# Altium schematic symbol library MISCESCH.SCHLIB: 351 symbols (part 1 of 2)
Pins are listed as number, name and electrical type; pins without a type are passive.

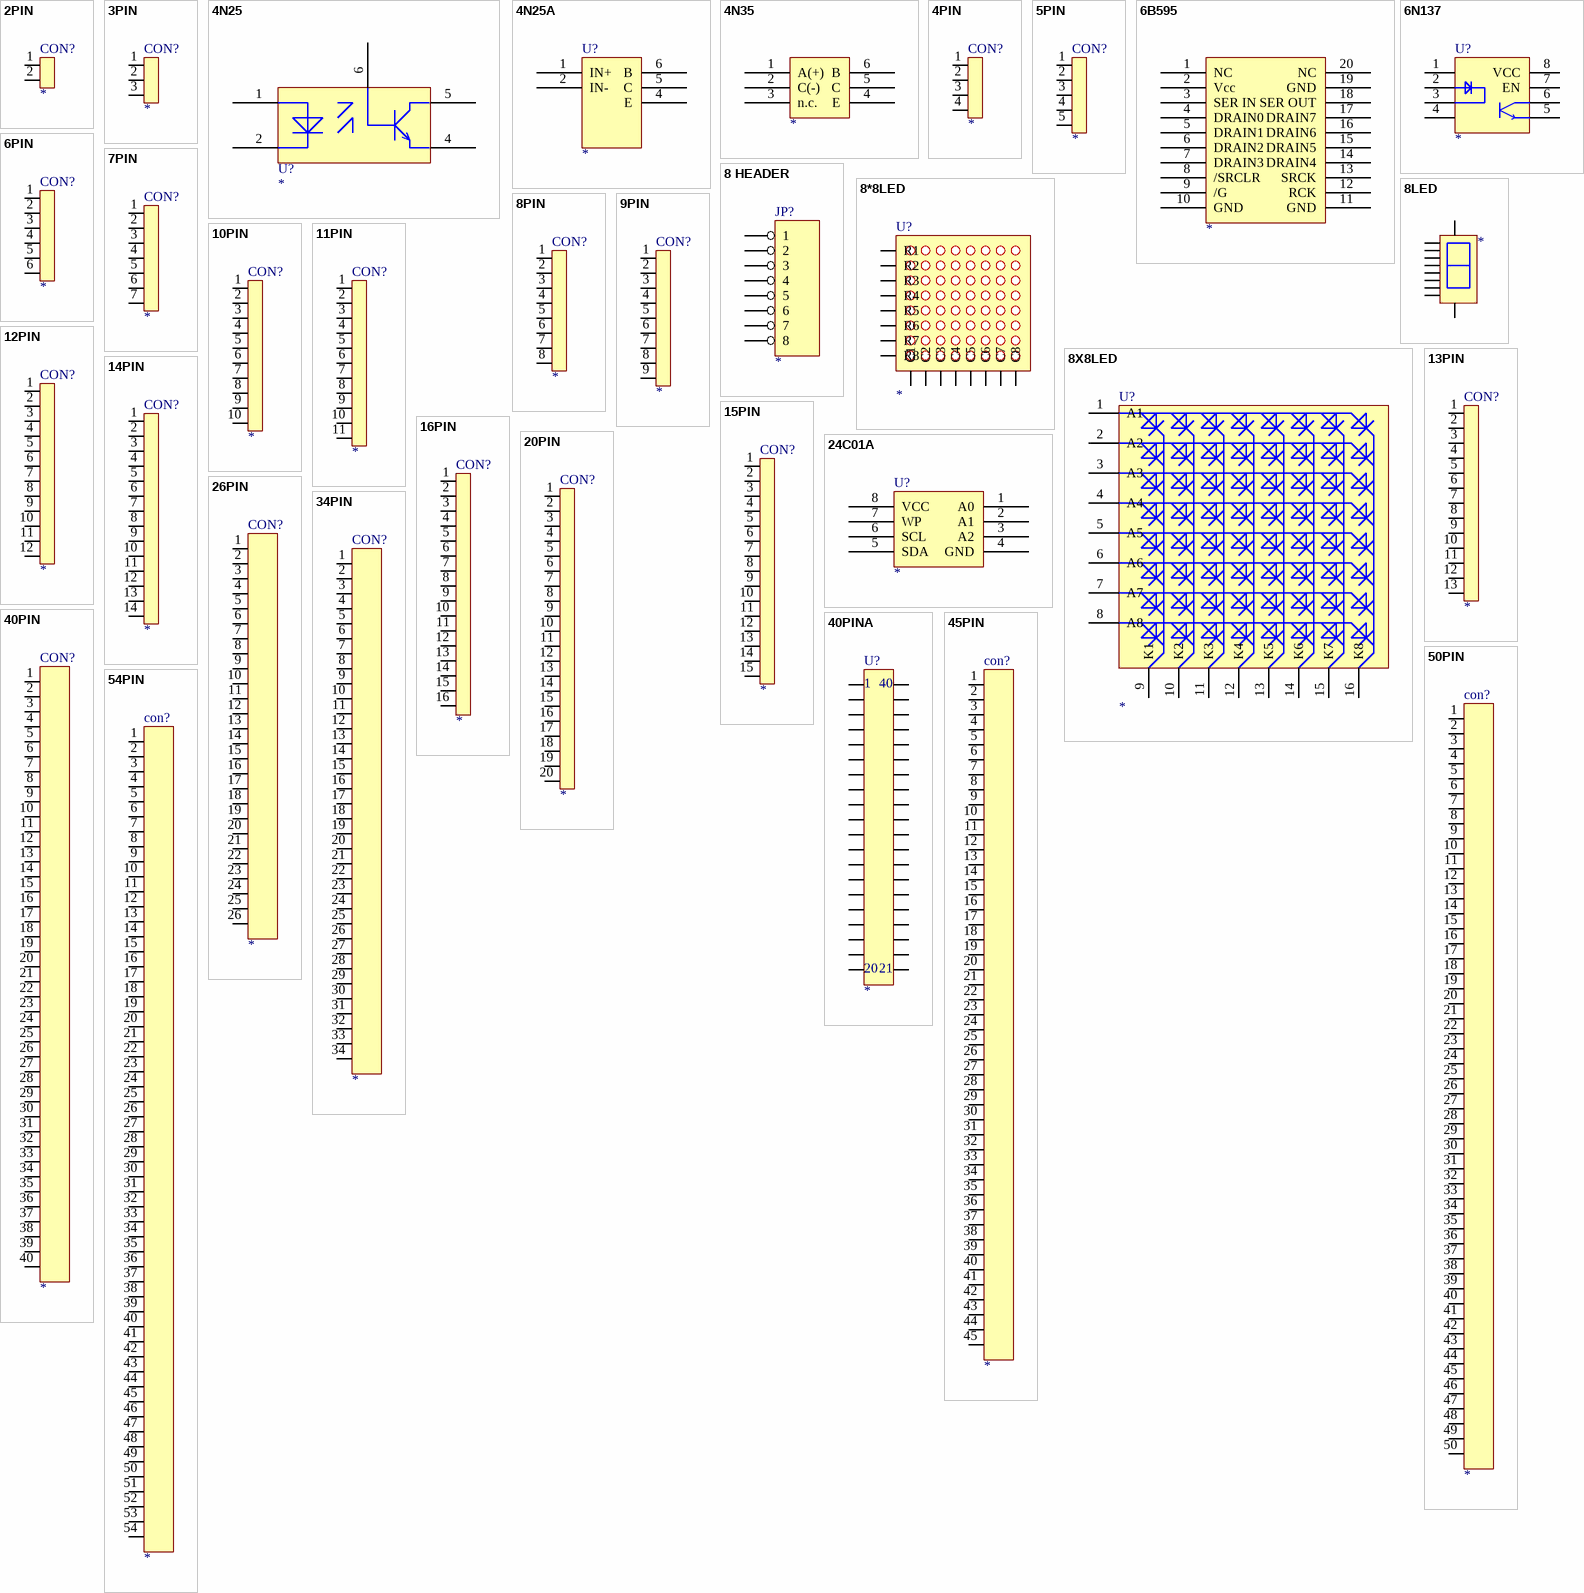
[diagram p0: symbols 2PIN to 54PIN]

## 2PIN
designator CON?
footprint SIP2
footprint SIP2/2
pins: 1, 2
1 alternate drawing of the same symbol

## 3PIN
designator CON?
footprint SIP3
footprint SIP3/2
pins: 1, 2, 3

## 4N25
designator U?
4N25
pins: 1, 2, 4, 5, 6

## 4N25A
designator U?
footprint DIP-6
pins: 1 IN+, 2 IN-, 4 E, 5 C, 6 B

## 4N35
designator ?
pins: 1 A(+), 2 C(-), 3 n.c., 4 E, 5 C, 6 B

## 4PIN
designator CON?
footprint SIP4
footprint SIP4/2
pins: 1, 2, 3, 4

## 5PIN
designator CON?
footprint SIP5
footprint SIP5/2
pins: 1, 2, 3, 4, 5

## 6B595
designator ?
pins: 1 NC, 2 Vcc, 3 SER IN, 4 DRAIN0, 5 DRAIN1, 6 DRAIN2, 7 DRAIN3, 8 /SRCLR, 9 /G, 10 GND, 11 GND, 12 RCK, 13 SRCK, 14 DRAIN4, 15 DRAIN5, 16 DRAIN6, 17 DRAIN7, 18 SER OUT, 19 GND, 20 NC

## 6N137
designator U?
6N137 OPT
footprint DIP8
pins: 1, 2, 3, 4, 5, 6, 7 EN, 8 VCC

## 6PIN
designator CON?
footprint SIP6
footprint SIP6/2
pins: 1, 2, 3, 4, 5, 6

## 7PIN
designator CON?
footprint SIP7
footprint SIP7/2
pins: 1, 2, 3, 4, 5, 6, 7

## 8 HEADER
designator JP?
8 Pin Header
footprint HDR1X8HA
pins: 1, 2, 3, 4, 5, 6, 7, 8

## 8*8LED
designator U?
LED 8X8 MATRIX
footprint 8X8LED
pins: 1 R5, 2 R7, 3 C2, 4 C3, 5 R8, 6 C5, 7 R6, 8 R3, 9 R1, 10 C4, 11 C6, 12 R4, 13 C1, 14 R2, 15 C7, 16 C8

## 8LED
designator ?
pins: ?1, ?2, ?3, ?4, ?5, ?6, ?7, ?8, ?9, ?10

## 8PIN
designator CON?
footprint SIP8
footprint SIP8/2
pins: 1, 2, 3, 4, 5, 6, 7, 8

## 8X8LED
designator U?
8X8LED
footprint 8X8LED
pins: 1 A1, 2 A2, 3 A3, 4 A4, 5 A5, 6 A6, 7 A7, 8 A8, 9 K1, 10 K2, 11 K3, 12 K4, 13 K5, 14 K6, 15 K7, 16 K8

## 9PIN
designator CON?
footprint SIP9
footprint SIP9/2
pins: 1, 2, 3, 4, 5, 6, 7, 8, 9

## 10PIN
designator CON?
footprint SIP10
footprint SIP10/2
pins: 1, 2, 3, 4, 5, 6, 7, 8, 9, 10

## 11PIN
designator CON?
footprint SIP11
footprint SIP11/2
pins: 1, 2, 3, 4, 5, 6, 7, 8, 9, 10, 11

## 12PIN
designator CON?
footprint SIP12
footprint SIP12/2
pins: 1, 2, 3, 4, 5, 6, 7, 8, 9, 10, 11, 12

## 13PIN
designator CON?
footprint SIP13
footprint SIP13/2
pins: 1, 2, 3, 4, 5, 6, 7, 8, 9, 10, 11, 12, 13

## 14PIN
designator CON?
footprint SIP14
footprint SIP14/2
pins: 1, 2, 3, 4, 5, 6, 7, 8, 9, 10, 11, 12, 13, 14

## 15PIN
designator CON?
footprint SIP14
footprint SIP14/2
pins: 1, 2, 3, 4, 5, 6, 7, 8, 9, 10, 11, 12, 13, 14, 15

## 16PIN
designator CON?
footprint SIP16
footprint SIP16/2
pins: 1, 2, 3, 4, 5, 6, 7, 8, 9, 10, 11, 12, 13, 14, 15, 16

## 20PIN
designator CON?
footprint SIP20
footprint SIP20/2
pins: 1, 2, 3, 4, 5, 6, 7, 8, 9, 10, 11, 12, 13, 14, 15, 16, 17, 18, 19, 20

## 24C01A
designator U?
24C01A
pins: 1 A0, 2 A1, 3 A2, 4 GND, 5 SDA, 6 SCL, 7 WP, 8 VCC

## 26PIN
designator CON?
footprint sip26
pins: 1, 2, 3, 4, 5, 6, 7, 8, 9, 10, 11, 12, 13, 14, 15, 16, 17, 18, 19, 20, 21, 22, 23, 24, 25, 26

## 34PIN
designator CON?
footprint sip34
pins: 1, 2, 3, 4, 5, 6, 7, 8, 9, 10, 11, 12, 13, 14, 15, 16, 17, 18, 19, 20, 21, 22, 23, 24, 25, 26, 27, 28, 29, 30, 31, 32, 33, 34

## 40PIN
designator CON?
footprint p40
pins: 1, 2, 3, 4, 5, 6, 7, 8, 9, 10, 11, 12, 13, 14, 15, 16, 17, 18, 19, 20, 21, 22, 23, 24, 25, 26, 27, 28, 29, 30, 31, 32, 33, 34, 35, 36, 37, 38, 39, 40

## 40PINA
designator U?
footprint DIP40
footprint SDIP40
pins: 1, 2, 3, 4, 5, 6, 7, 8, 9, 10, 11, 12, 13, 14, 15, 16, 17, 18, 19, 20, 21, 22, 23, 24, 25, 26, 27, 28, 29, 30, 31, 32, 33, 34, 35, 36, 37, 38, 39, 40

## 45PIN
designator con?
footprint 45P/0.5/BC
footprint 45P/0.5/TC
pins: 1, 2, 3, 4, 5, 6, 7, 8, 9, 10, 11, 12, 13, 14, 15, 16, 17, 18, 19, 20, 21, 22, 23, 24, 25, 26, 27, 28, 29, 30, 31, 32, 33, 34, 35, 36, 37, 38, 39, 40, 41, 42, 43, 44, 45

## 50PIN
designator con?
footprint 50P/0.5/BC
footprint 50P/0.5/TC
pins: 1, 2, 3, 4, 5, 6, 7, 8, 9, 10, 11, 12, 13, 14, 15, 16, 17, 18, 19, 20, 21, 22, 23, 24, 25, 26, 27, 28, 29, 30, 31, 32, 33, 34, 35, 36, 37, 38, 39, 40, 41, 42, 43, 44, 45, 46, 47, 48, 49, 50

## 54PIN
designator con?
footprint 54P/0.5/BC
pins: 1, 2, 3, 4, 5, 6, 7, 8, 9, 10, 11, 12, 13, 14, 15, 16, 17, 18, 19, 20, 21, 22, 23, 24, 25, 26, 27, 28, 29, 30, 31, 32, 33, 34, 35, 36, 37, 38, 39, 40, 41, 42, 43, 44, 45, 46, 47, 48, 49, 50, 51, 52, 53, 54

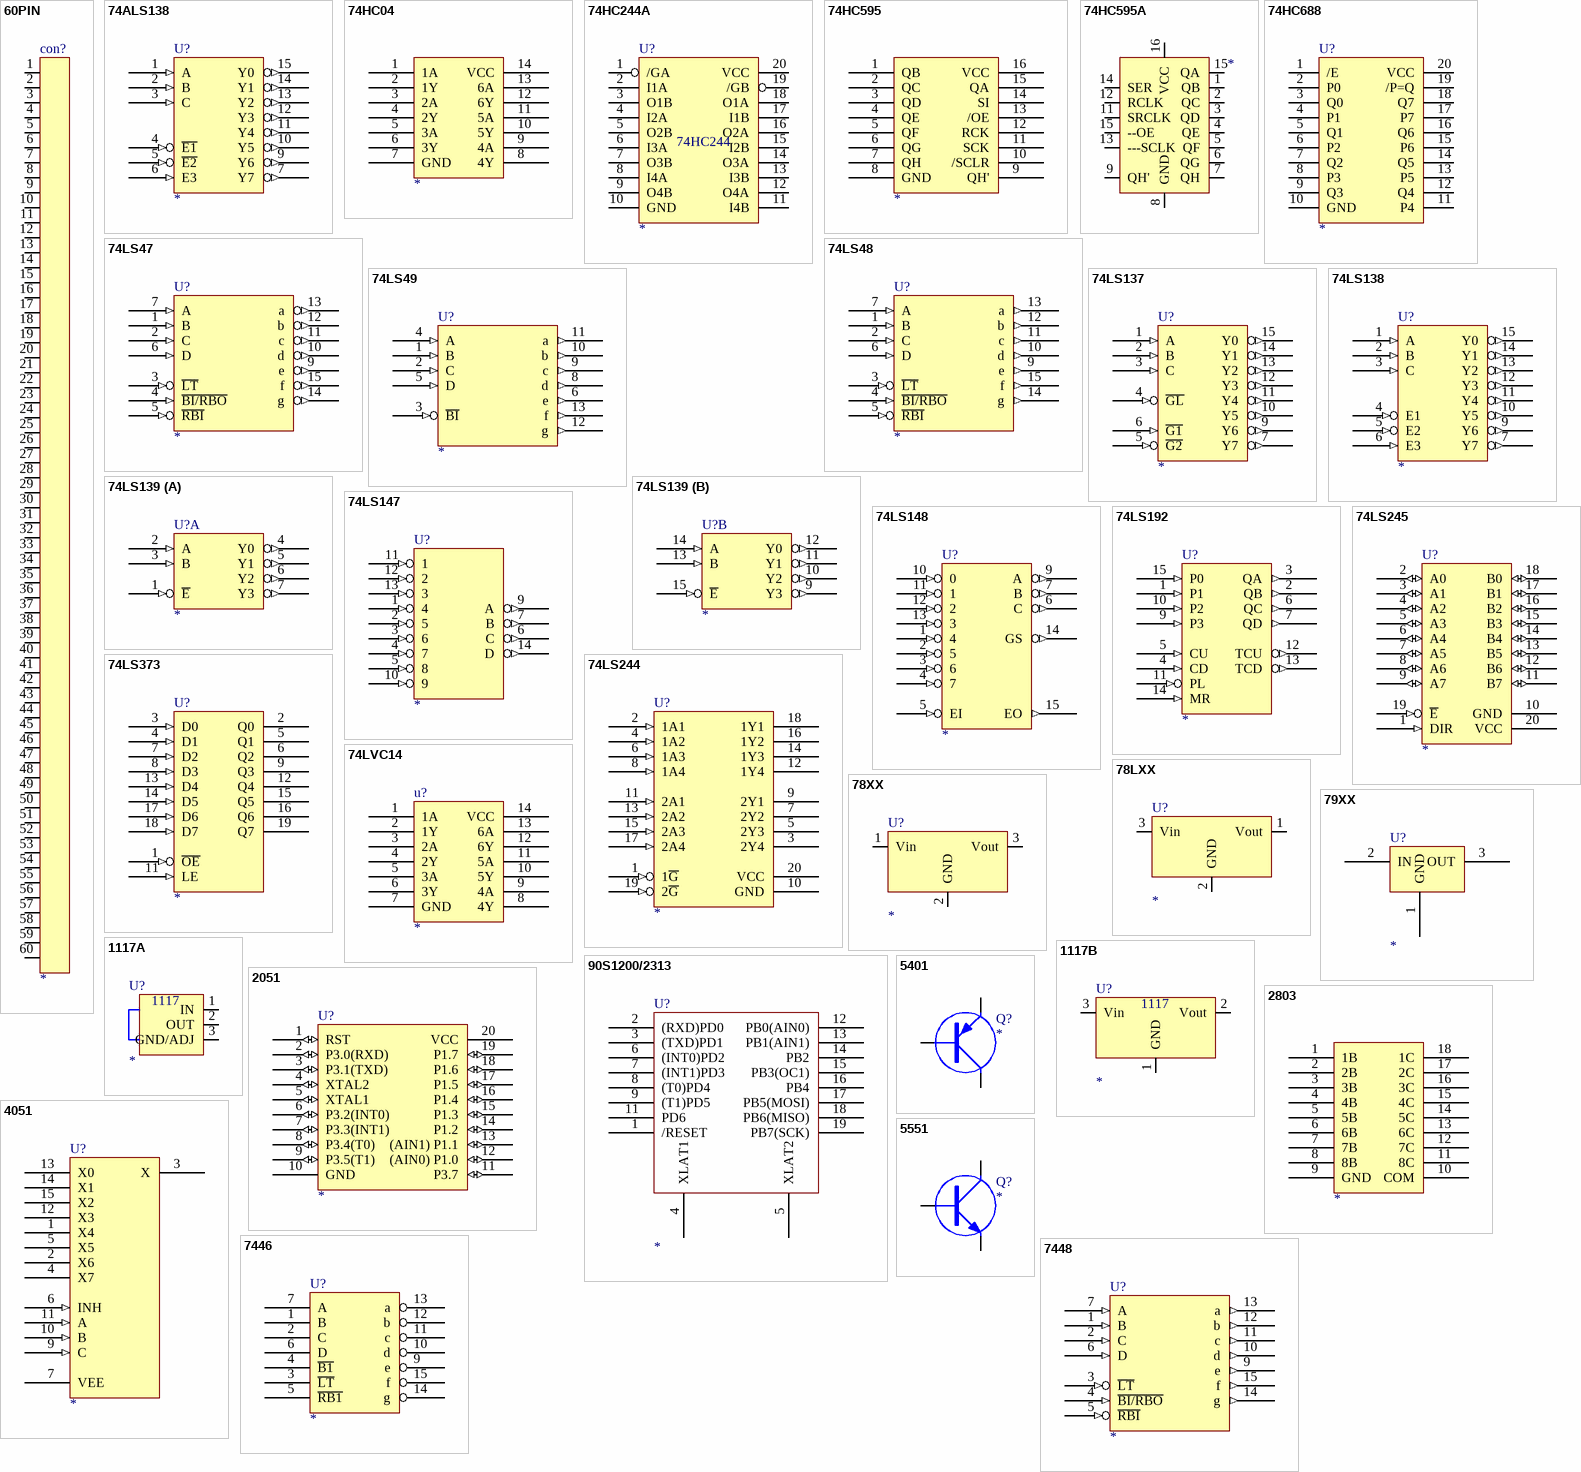
[diagram p1: symbols 60PIN to 7448]

## 60PIN
designator con?
footprint 60P/0.5/BC
footprint 60P/0.5/TC
pins: 1, 2, 3, 4, 5, 6, 7, 8, 9, 10, 11, 12, 13, 14, 15, 16, 17, 18, 19, 20, 21, 22, 23, 24, 25, 26, 27, 28, 29, 30, 31, 32, 33, 34, 35, 36, 37, 38, 39, 40, 41, 42, 43, 44, 45, 46, 47, 48, 49, 50, 51, 52, 53, 54, 55, 56, 57, 58, 59, 60

## 74ALS138
designator U?
footprint DIP-16
pins: 1 A (in), 2 B (in), 3 C (in), 4 ~{E1} (in), 5 ~{E2} (in), 6 E3 (in), 7 Y7 (out), 8 GND (power) hidden to GND, 9 Y6 (out), 10 Y5 (out), 11 Y4 (out), 12 Y3 (out), 13 Y2 (out), 14 Y1 (out), 15 Y0 (out), 16 VCC (power) hidden to VCC

## 74HC04
designator ?
pins: 1 1A, 2 1Y, 3 2A, 4 2Y, 5 3A, 6 3Y, 7 GND, 8 4Y, 9 4A, 10 5Y, 11 5A, 12 6Y, 13 6A, 14 VCC

## 74HC244A
designator U?
74HC244
footprint DIP20
pins: 1 /GA, 2 I1A, 3 O1B, 4 I2A, 5 O2B, 6 I3A, 7 O3B, 8 I4A, 9 O4B, 10 GND, 11 I4B, 12 O4A, 13 I3B, 14 O3A, 15 I2B, 16 O2A, 17 I1B, 18 O1A, 19 /GB, 20 VCC

## 74HC595
designator ?
pins: 1 QB, 2 QC, 3 QD, 4 QE, 5 QF, 6 QG, 7 QH, 8 GND, 9 QH', 10 /SCLR, 11 SCK, 12 RCK, 13 /OE, 14 SI, 15 QA, 16 VCC

## 74HC595A
designator ?
pins: 1 QB, 2 QC, 3 QD, 4 QE, 5 QF, 6 QG, 7 QH, 8 GND, 9 QH', 11 SRCLK, 12 RCLK, 13 ---SCLK, 14 SER, 15 QA, 15 --OE, 16 VCC

## 74HC688
designator U?
74HC688 8-BIT  MAGNITUDE COMPARATOR
footprint DIP20
pins: 1 /E, 2 P0, 3 Q0, 4 P1, 5 Q1, 6 P2, 7 Q2, 8 P3, 9 Q3, 10 GND, 11 P4, 12 Q4, 13 P5, 14 Q5, 15 P6, 16 Q6, 17 P7, 18 Q7, 19 /P=Q, 20 VCC

## 74LS47
designator U?
footprint DIP-14
pins: 1 B (in), 2 C (in), 3 ~{LT} (in), 4 ~{BI/RBO} (in), 5 ~{RBI} (in), 6 D (in), 7 A (in), 8 GND (power) hidden to GND, 9 e (out), 10 d (out), 11 c (out), 12 b (out), 13 a (out), 14 g (out), 15 f (out), 16 VCC (power) hidden to VCC

## 74LS48
designator U?
footprint DIP-14
pins: 1 B (in), 2 C (in), 3 ~{LT} (in), 4 ~{BI/RBO} (in), 5 ~{RBI} (in), 6 D (in), 7 A (in), 8 GND (power) hidden to GND, 9 e (out), 10 d (out), 11 c (out), 12 b (out), 13 a (out), 14 g (out), 15 f (out), 16 VCC (power) hidden to VCC

## 74LS49
designator U?
footprint DIP-14
pins: 1 B (in), 2 C (in), 3 ~{BI} (in), 4 A (in), 5 D (in), 6 e (out), 7 GND (power) hidden to GND, 8 d (out), 9 c (out), 10 b (out), 11 a (out), 12 g (out), 13 f (out), 14 VCC (power) hidden to VCC

## 74LS137
designator U?
footprint DIP-16
pins: 1 A (in), 2 B (in), 3 C (in), 4 ~{GL} (in), 5 ~{G2} (in), 6 ~{G1} (in), 7 Y7 (out), 8 GND (power) hidden to GND, 9 Y6 (out), 10 Y5 (out), 11 Y4 (out), 12 Y3 (out), 13 Y2 (out), 14 Y1 (out), 15 Y0 (out), 16 VCC (power) hidden to VCC

## 74LS138
designator U?
footprint DIP-16
pins: 1 A (in), 2 B (in), 3 C (in), 4 E1 (in), 5 E2 (in), 6 E3 (in), 7 Y7 (out), 8 GND (power) hidden to GND, 9 Y6 (out), 10 Y5 (out), 11 Y4 (out), 12 Y3 (out), 13 Y2 (out), 14 Y1 (out), 15 Y0 (out), 16 VCC (power) hidden to VCC

## 74LS139
designator U?
footprint DIP-16
part A pins: 1 ~{E} (in), 2 A (in), 3 B (in), 4 Y0 (out), 5 Y1 (out), 6 Y2 (out), 7 Y3 (out), 8 GND (power) hidden to GND, 16 VCC (power) hidden to VCC
part B pins: 8 GND (power) hidden to GND, 9 Y3 (out), 10 Y2 (out), 11 Y1 (out), 12 Y0 (out), 13 B (in), 14 A (in), 15 ~{E} (in), 16 VCC (power) hidden to VCC

## 74LS147
designator U?
footprint DIP-16
pins: 1 4 (in), 2 5 (in), 3 6 (in), 4 7 (in), 5 8 (in), 6 C (out), 7 B (out), 8 GND (power) hidden to GND, 9 A (out), 10 9 (in), 11 1 (in), 12 2 (in), 13 3 (in), 14 D (out), 16 VCC (power) hidden to VCC

## 74LS148
designator U?
footprint DIP-16
pins: 1 4 (in), 2 5 (in), 3 6 (in), 4 7 (in), 5 EI (in), 6 C (out), 7 B (out), 8 GND (power) hidden to GND, 9 A (out), 10 0 (in), 11 1 (in), 12 2 (in), 13 3 (in), 14 GS (out), 15 EO (out), 16 VCC (power) hidden to VCC

## 74LS192
designator U?
footprint DIP-16
pins: 1 P1 (in), 2 QB (out), 3 QA (out), 4 CD (in), 5 CU (in), 6 QC (out), 7 QD (out), 8 GND (power) hidden to GND, 9 P3 (in), 10 P2 (in), 11 PL (in), 12 TCU (out), 13 TCD (out), 14 MR (in), 15 P0 (in), 16 VCC (power) hidden to VCC

## 74LS244
designator U?
footprint DIP-20
pins: 1 1~{G} (in), 2 1A1 (in), 3 2Y4 (hiz), 4 1A2 (in), 5 2Y3 (hiz), 6 1A3 (in), 7 2Y2 (hiz), 8 1A4 (in), 9 2Y1 (hiz), 10 GND (power), 11 2A1 (in), 12 1Y4 (hiz), 13 2A2 (in), 14 1Y3 (hiz), 15 2A3 (in), 16 1Y2 (hiz), 17 2A4 (in), 18 1Y1 (hiz), 19 2~{G} (in), 20 VCC (power)

## 74LS245
designator U?
footprint DIP-20
pins: 1 DIR (in), 2 A0 (io), 3 A1 (io), 4 A2 (io), 5 A3 (io), 6 A4 (io), 7 A5 (io), 8 A6 (io), 9 A7 (io), 10 GND (power), 11 B7 (io), 12 B6 (io), 13 B5 (io), 14 B4 (io), 15 B3 (io), 16 B2 (io), 17 B1 (io), 18 B0 (io), 19 ~{E} (in), 20 VCC (power)

## 74LS373
designator U?
footprint DIP-20
pins: 1 ~{OE} (in), 2 Q0 (hiz), 3 D0 (in), 4 D1 (in), 5 Q1 (hiz), 6 Q2 (hiz), 7 D2 (in), 8 D3 (in), 9 Q3 (hiz), 10 GND (power) hidden to GND, 11 LE (in), 12 Q4 (hiz), 13 D4 (in), 14 D5 (in), 15 Q5 (hiz), 16 Q6 (hiz), 17 D6 (in), 18 D7 (in), 19 Q7 (hiz), 20 VCC (power) hidden to VCC

## 74LVC14
designator u?
74LVC14D
footprint SO-14
pins: 1 1A, 2 1Y, 3 2A, 4 2Y, 5 3A, 6 3Y, 7 GND, 8 4Y, 9 4A, 10 5Y, 11 5A, 12 6Y, 13 6A, 14 VCC

## 78LXX
designator U?
footprint SOT-89
pins: 1 Vout, 2 GND, 3 Vin

## 78XX
designator U?
footprint TO-220
pins: 1 Vin, 2 GND, 3 Vout

## 79XX
designator U?
79xx
footprint TO-220
pins: 1 GND, 2 IN, 3 OUT

## 90S1200/2313
designator U?
90S120/2313
footprint DIP20
pins: 1 /RESET, 2 (RXD)PD0, 3 (TXD)PD1, 4 XLAT1, 5 XLAT2, 6 (INT0)PD2, 7 (INT1)PD3, 8 (T0)PD4, 9 (T1)PD5, 10 GND (power) hidden to GND, 11 PD6, 12 PB0(AIN0), 13 PB1(AIN1), 14 PB2, 15 PB3(OC1), 16 PB4, 17 PB5(MOSI), 18 PB6(MISO), 19 PB7(SCK), 20 VCC (power) hidden to VCC

## 1117A
designator U?
footprint sot-223
pins: 1 IN, 2 OUT, 3 GND/ADJ
text: 1117

## 1117B
designator U?
footprint SOT-223
pins: 1 GND, 2 Vout, 3 Vin
text: 1117

## 2051
designator U?
footprint DIP20
pins: 1 RST (io), 2 P3.0(RXD) (io), 3 P3.1(TXD) (io), 4 XTAL2 (io), 5 XTAL1 (io), 6 P3.2(INT0) (io), 7 P3.3(INT1) (io), 8 P3.4(T0) (io), 9 P3.5(T1) (io), 10 GND (power), 11 P3.7 (io), 12 (AIN0) P1.0 (io), 13 (AIN1) P1.1 (io), 14 P1.2 (io), 15 P1.3 (io), 16 P1.4 (io), 17 P1.5 (io), 18 P1.6 (io), 19 P1.7 (io), 20 VCC (power)

## 2803
designator ?
pins: 1 1B, 2 2B, 3 3B, 4 4B, 5 5B, 6 6B, 7 7B, 8 8B, 9 GND, 10 COM, 11 8C, 12 7C, 13 6C, 14 5C, 15 4C, 16 3C, 17 2C, 18 1C

## 4051
designator U?
footprint DIP-16
pins: 1 X4, 2 X6, 3 X, 4 X7, 5 X5, 6 INH (in), 7 VEE, 8 GND (power) hidden to GND, 9 C (in), 10 B (in), 11 A (in), 12 X3, 13 X0, 14 X1, 15 X2, 16 VCC (power) hidden to VCC

## 5401
designator Q?
2N5401
footprint TO-92A
footprint TO-92B
footprint TO-92D
footprint TO-92E
pins: 1, 2, 3

## 5551
designator Q?
2N5551
footprint TO-92A
footprint TO-92B
footprint TO-92D
footprint TO-92E
pins: 1, 2, 3

## 7446
designator U?
footprint DIP-16
pins: 1 B, 2 C, 3 ~{LT}, 4 ~{B1}, 5 ~{RB1}, 6 D, 7 A, 8 GND (power) hidden to GND, 9 e (oc), 10 d (oc), 11 c (oc), 12 b (oc), 13 a (oc), 14 g (oc), 15 f (oc), 16 VCC (power) hidden to VCC

## 7448
designator U?
footprint DIP-16
pins: 1 B (in), 2 C (in), 3 ~{LT} (in), 4 ~{BI/RBO} (in), 5 ~{RBI} (in), 6 D (in), 7 A (in), 8 GND (power) hidden to GND, 9 e (out), 10 d (out), 11 c (out), 12 b (out), 13 a (out), 14 g (out), 15 f (out), 16 VCC (power) hidden to VCC

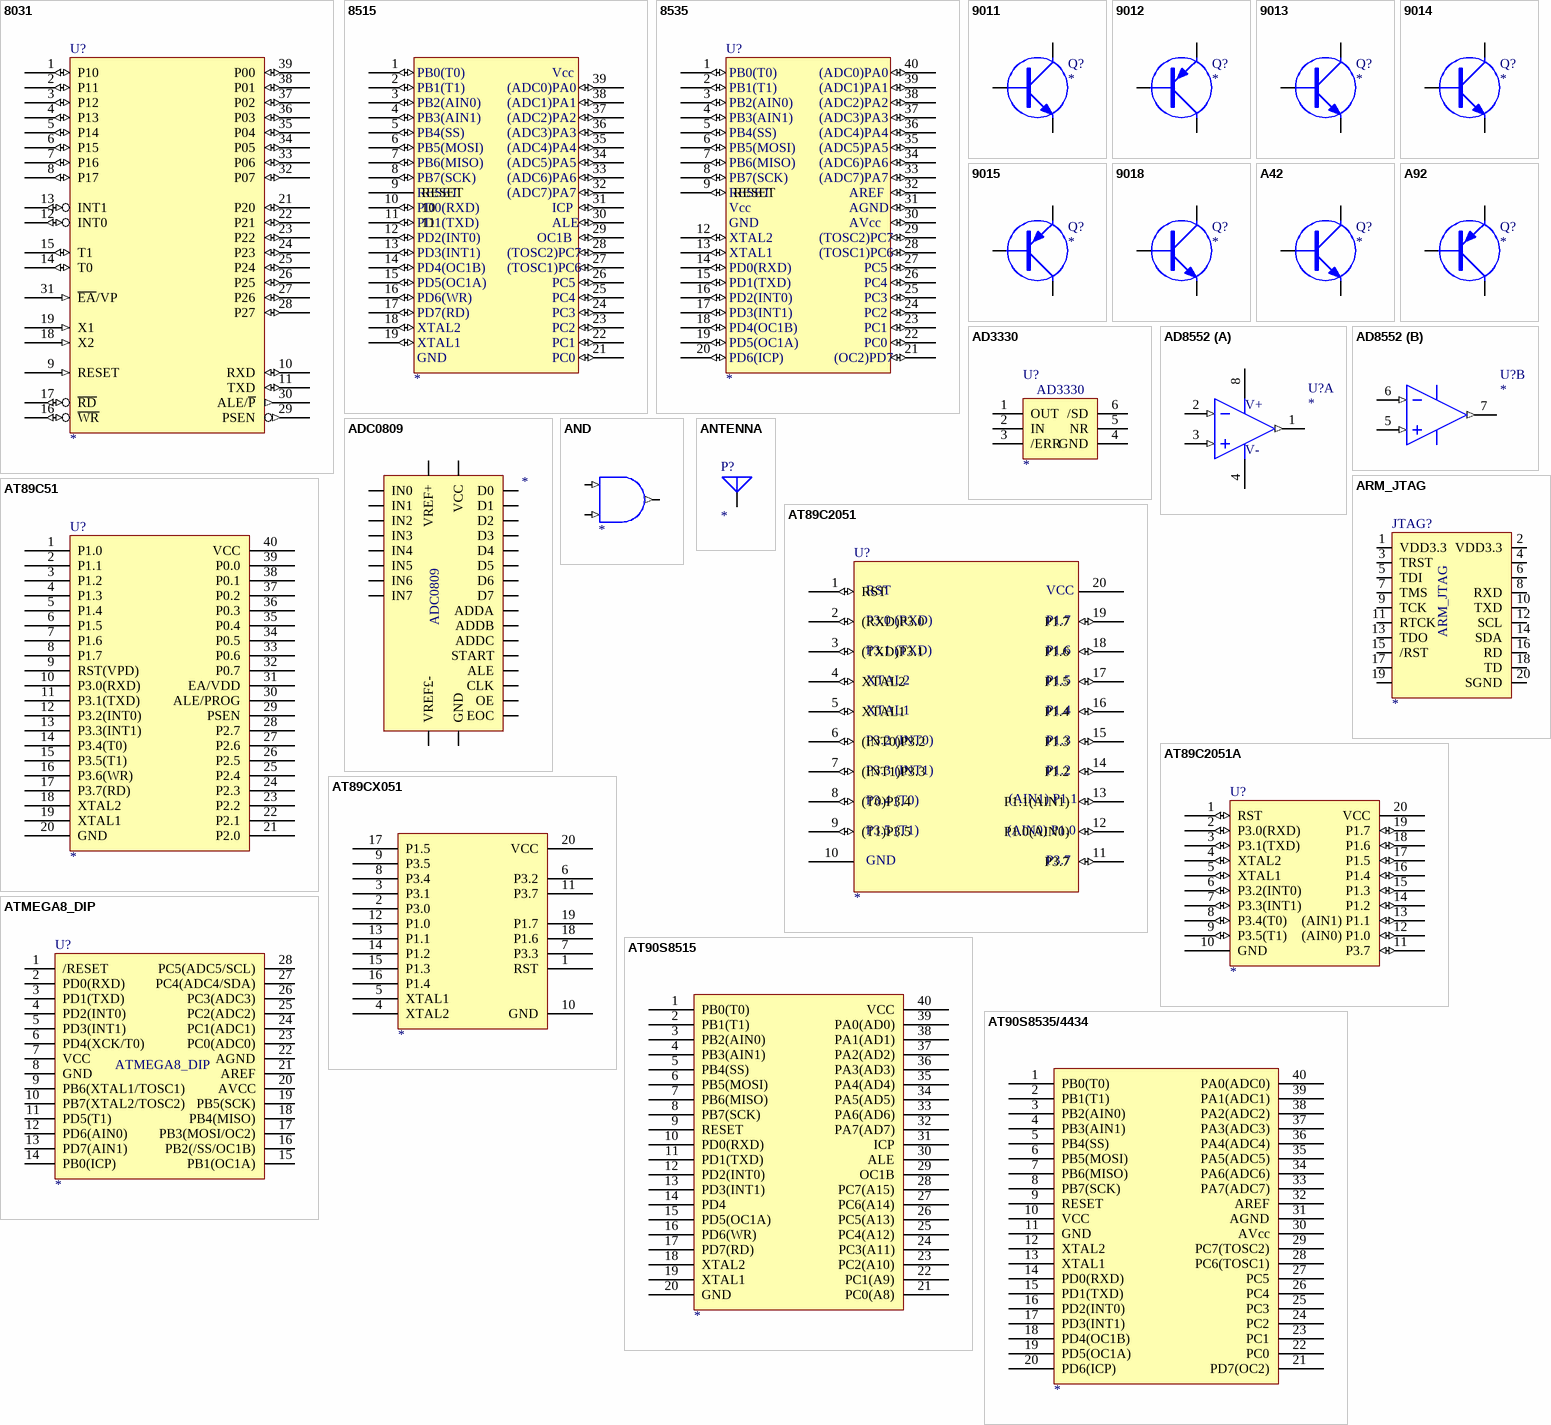
[diagram p2: symbols 8031 to ATMEGA8_DIP]

## 8031
designator U?
footprint DIP-40
pins: 1 P10 (io), 2 P11 (io), 3 P12 (io), 4 P13 (io), 5 P14 (io), 6 P15 (io), 7 P16 (io), 8 P17 (io), 9 RESET (in), 10 RXD (io), 11 TXD (io), 12 INT0 (io), 13 INT1 (io), 14 T0 (io), 15 T1 (io), 16 ~{WR} (io), 17 ~{RD} (io), 18 X2 (in), 19 X1 (in), 20 GND (power) hidden to GND, 21 P20 (io), 22 P21 (io), 23 P22 (io), 24 P23 (io), 25 P24 (io), 26 P25 (io), 27 P26 (io), 28 P27 (io), 29 PSEN (out), 30 ALE/~{P} (out), 31 ~{EA}/VP (in), 32 P07 (io), 33 P06 (io), 34 P05 (io), 35 P04 (io), 36 P03 (io), 37 P02 (io), 38 P01 (io), 39 P00 (io), 40 VCC (power) hidden to VCC

## 8515
designator ?
pins: 1 (io), 2 (io), 3 (io), 4 (io), 5 (io), 6 (io), 7 (io), 8 (io), 9 RESET (oc), 10 (io), 11 (io), 12 (io), 13 (io), 14 (io), 15 (io), 16 (io), 17 (io), 18 (io), 19 (io), 20 GND (power) hidden to GND, 21 (io), 22 (io), 23 (io), 24 (io), 25 (io), 26 (io), 27 (io), 28 (io), 29 (io), 30 (io), 31 (io), 32 (io), 33 (io), 34 (io), 35 (io), 36 (io), 37 (io), 38 (io), 39 (io), 40 VCC (power) hidden to VCC
text: PB0(T0); Vcc; PB1(T1); (ADC0)PA0; PB2(AIN0); (ADC1)PA1; PB3(AIN1); (ADC2)PA2; PB4(SS); (ADC3)PA3; PB5(MOSI); (ADC4)PA4; PB6(MISO); (ADC5)PA5; PB7(SCK); (ADC6)PA6; (ADC7)PA7; PD0(RXD); ICP; PD1(TXD); ALE; PD2(INT0); OC1B; PD3(INT1); (TOSC2)PC7; PD4(OC1B); (TOSC1)PC6; PD5(OC1A); PC5; PD6(WR); PC4; PD7(RD); PC3; XTAL2; PC2; XTAL1; PC1; PC0

## 8535
designator U?
AVR90S8535
footprint DIP-40
pins: 1 (io), 2 (io), 3 (io), 4 (io), 5 (io), 6 (io), 7 (io), 8 (io), 9 RESET (io), 10 VCC (power) hidden to VCC, 11 GND (power) hidden to GND, 12 (io), 13 (io), 14 (io), 15 (io), 16 (io), 17 (io), 18 (io), 19 (io), 20 (io), 21 (io), 22 (io), 23 (io), 24 (io), 25 (io), 26 (io), 27 (io), 28 (io), 29 (io), 30 (io), 31 (io), 32 (io), 33 (io), 34 (io), 35 (io), 36 (io), 37 (io), 38 (io), 39 (io), 40 (io)
text: PB0(T0); (ADC0)PA0; PB1(T1); (ADC1)PA1; PB2(AIN0); (ADC2)PA2; PB3(AIN1); (ADC3)PA3; PB4(SS); (ADC4)PA4; PB5(MOSI); (ADC5)PA5; PB6(MISO); (ADC6)PA6; PB7(SCK); (ADC7)PA7; AREF; Vcc; AGND; AVcc; XTAL2; (TOSC2)PC7; XTAL1; (TOSC1)PC6; PD0(RXD); PC5; PD1(TXD); PC4; PD2(INT0); PC3; PD3(INT1); PC2; PD4(OC1B); PC1; PD5(OC1A); PC0; PD6(ICP); (OC2)PD7

## 9011
designator Q?
9011
footprint TO-92A
footprint TO-92B
footprint TO-92D
footprint TO-92E
pins: 1, 2, 3

## 9012
designator Q?
9012
footprint TO-92A
footprint TO-92B
footprint TO-92D
footprint TO-92E
pins: 1, 2, 3

## 9013
designator Q?
9013
footprint TO-92A
footprint TO-92B
footprint TO-92D
footprint TO-92E
pins: 1, 2, 3

## 9014
designator Q?
9014
footprint TO-92A
footprint TO-92B
footprint TO-92D
footprint TO-92E
pins: 1, 2, 3

## 9015
designator Q?
9015
footprint TO-92A
footprint TO-92B
footprint TO-92D
footprint TO-92E
pins: 1, 2, 3

## 9018
designator Q?
9018
footprint TO-92A
footprint TO-92B
footprint TO-92D
footprint TO-92E
pins: 1, 2, 3

## A42
designator Q?
footprint TO-92A
footprint TO-92B
footprint TO-92D
footprint TO-92E
pins: 1, 2, 3

## A92
designator Q?
A92
footprint TO-92A
footprint TO-92B
footprint TO-92D
footprint TO-92E
pins: 1, 2, 3

## AD3330
designator U?
AD3330
footprint SOT-23-6
pins: 1 OUT, 2 IN, 3 /ERR, 4 GND, 5 NR, 6 /SD

## AD8552
designator U?
AD8552
footprint DIP16
footprint SO-16
part A pins: 1 OUT1 (out), 2 IN1- (in), 3 IN1+ (in), 4 V- (power), 8 V+ (power)
part B pins: 5 IN1+ (in), 6 IN1- (in), 7 OUT1 (out)

## ADC0809
designator ?
pins: ?1 IN0, ?2 IN3, ?3 IN4, ?4 IN5, ?5 IN6, ?6 IN7, ?7 IN1, ?8 IN2, ?9 VCC, ?10 GND, ?11 VREF£­, ?12 D0, ?13 D1, ?14 D2, ?15 D3, ?16 D4, ?17 D5, ?18 D6, ?19 D7, ?20 ADDA, ?21 ADDB, ?22 ADDC, ?23 START, ?24 ALE, ?25 CLK, ?26 OE, ?27 VREF+, ?28 EOC

## AND
designator ?
pins: 1 (in), 2 (in), 3 (out)

## ANTENNA
designator P?
footprint P1
pins: 1

## ARM_JTAG
designator JTAG?
pins: 1 VDD3.3, 2 VDD3.3, 3 TRST, 4, 5 TDI, 6, 7 TMS, 8 RXD, 9 TCK, 10 TXD, 11 RTCK, 12 SCL, 13 TDO, 14 SDA, 15 /RST, 16 RD, 17, 18 TD, 19, 20 SGND

## AT89C51
designator U?
AT89C51
footprint DIP40
pins: 1 P1.0, 2 P1.1, 3 P1.2, 4 P1.3, 5 P1.4, 6 P1.5, 7 P1.6, 8 P1.7, 9 RST(VPD), 10 P3.0(RXD), 11 P3.1(TXD), 12 P3.2(INT0), 13 P3.3(INT1), 14 P3.4(T0), 15 P3.5(T1), 16 P3.6(WR), 17 P3.7(RD), 18 XTAL2, 19 XTAL1, 20 GND, 21 P2.0, 22 P2.1, 23 P2.2, 24 P2.3, 25 P2.4, 26 P2.5, 27 P2.6, 28 P2.7, 29 PSEN, 30 ALE/PROG, 31 EA/VDD, 32 P0.7, 33 P0.6, 34 P0.5, 35 P0.4, 36 P0.3, 37 P0.2, 38 P0.1, 39 P0.0, 40 VCC

## AT89C2051
designator U?
AT89C2051
footprint DIP-20
pins: 1 RST (io), 2 (RXD)P3.0 (io), 3 (TXD)P3.1 (io), 4 XTAL2 (io), 5 XTAL1 (io), 6 (INT0)P3.2 (io), 7 (INT1)P3.3 (io), 8 (T0)P3.4 (io), 9 (T1)P3.5 (io), 10 GND (power), 11 P3.7 (io), 12 P1.0(AIN0) (io), 13 P1.1(AIN1) (io), 14 P1.2 (io), 15 P1.3 (io), 16 P1.4 (io), 17 P1.5 (io), 18 P1.6 (io), 19 P1.7 (io), 20 VCC (power)
text: P3.0 (RXD); P3.1 (TXD); P3.2 (INT0); P3.3 (INT1); P3.4 (T0); (AIN1) P1.1; P3.5 (T1); (AIN0) P1.0

## AT89C2051A
designator U?
AT89C2051
footprint DIP20
pins: 1 RST (io), 2 P3.0(RXD) (io), 3 P3.1(TXD) (io), 4 XTAL2 (io), 5 XTAL1 (io), 6 P3.2(INT0) (io), 7 P3.3(INT1) (io), 8 P3.4(T0) (io), 9 P3.5(T1) (io), 10 GND (power), 11 P3.7 (io), 12 (AIN0) P1.0 (io), 13 (AIN1) P1.1 (io), 14 P1.2 (io), 15 P1.3 (io), 16 P1.4 (io), 17 P1.5 (io), 18 P1.6 (io), 19 P1.7 (io), 20 VCC (power)

## AT89CX051
designator ?
pins: 1 RST, 2 P3.0, 3 P3.1, 4 XTAL2, 5 XTAL1, 6 P3.2, 7 P3.3, 8 P3.4, 9 P3.5, 10 GND, 11 P3.7, 12 P1.0, 13 P1.1, 14 P1.2, 15 P1.3, 16 P1.4, 17 P1.5, 18 P1.6, 19 P1.7, 20 VCC

## AT90S8515
designator ?
pins: 1 PB0(T0), 2 PB1(T1), 3 PB2(AIN0), 4 PB3(AIN1), 5 PB4(SS), 6 PB5(MOSI), 7 PB6(MISO), 8 PB7(SCK), 9 RESET, 10 PD0(RXD), 11 PD1(TXD), 12 PD2(INT0), 13 PD3(INT1), 14 PD4, 15 PD5(OC1A), 16 PD6(WR), 17 PD7(RD), 18 XTAL2, 19 XTAL1, 20 GND, 21 PC0(A8), 22 PC1(A9), 23 PC2(A10), 24 PC3(A11), 25 PC4(A12), 26 PC5(A13), 27 PC6(A14), 28 PC7(A15), 29 OC1B, 30 ALE, 31 ICP, 32 PA7(AD7), 33 PA6(AD6), 34 PA5(AD5), 35 PA4(AD4), 36 PA3(AD3), 37 PA2(AD2), 38 PA1(AD1), 39 PA0(AD0), 40 VCC

## AT90S8535/4434
designator ?
pins: 1 PB0(T0), 2 PB1(T1), 3 PB2(AIN0), 4 PB3(AIN1), 5 PB4(SS), 6 PB5(MOSI), 7 PB6(MISO), 8 PB7(SCK), 9 RESET, 10 VCC, 11 GND, 12 XTAL2, 13 XTAL1, 14 PD0(RXD), 15 PD1(TXD), 16 PD2(INT0), 17 PD3(INT1), 18 PD4(OC1B), 19 PD5(OC1A), 20 PD6(ICP), 21 PD7(OC2), 22 PC0, 23 PC1, 24 PC2, 25 PC3, 26 PC4, 27 PC5, 28 PC6(TOSC1), 29 PC7(TOSC2), 30 AVcc, 31 AGND, 32 AREF, 33 PA7(ADC7), 34 PA6(ADC6), 35 PA5(ADC5), 36 PA4(ADC4), 37 PA3(ADC3), 38 PA2(ADC2), 39 PA1(ADC1), 40 PA0(ADC0)

## ATMEGA8_DIP
designator U?
ATMEGA8_DIP
footprint DIP28
pins: 1 /RESET, 2 PD0(RXD), 3 PD1(TXD), 4 PD2(INT0), 5 PD3(INT1), 6 PD4(XCK/T0), 7 VCC, 8 GND, 9 PB6(XTAL1/TOSC1), 10 PB7(XTAL2/TOSC2), 11 PD5(T1), 12 PD6(AIN0), 13 PD7(AIN1), 14 PB0(ICP), 15 PB1(OC1A), 16 PB2(/SS/OC1B), 17 PB3(MOSI/OC2), 18 PB4(MISO), 19 PB5(SCK), 20 AVCC, 21 AREF, 22 AGND, 23 PC0(ADC0), 24 PC1(ADC1), 25 PC2(ADC2), 26 PC3(ADC3), 27 PC4(ADC4/SDA), 28 PC5(ADC5/SCL)

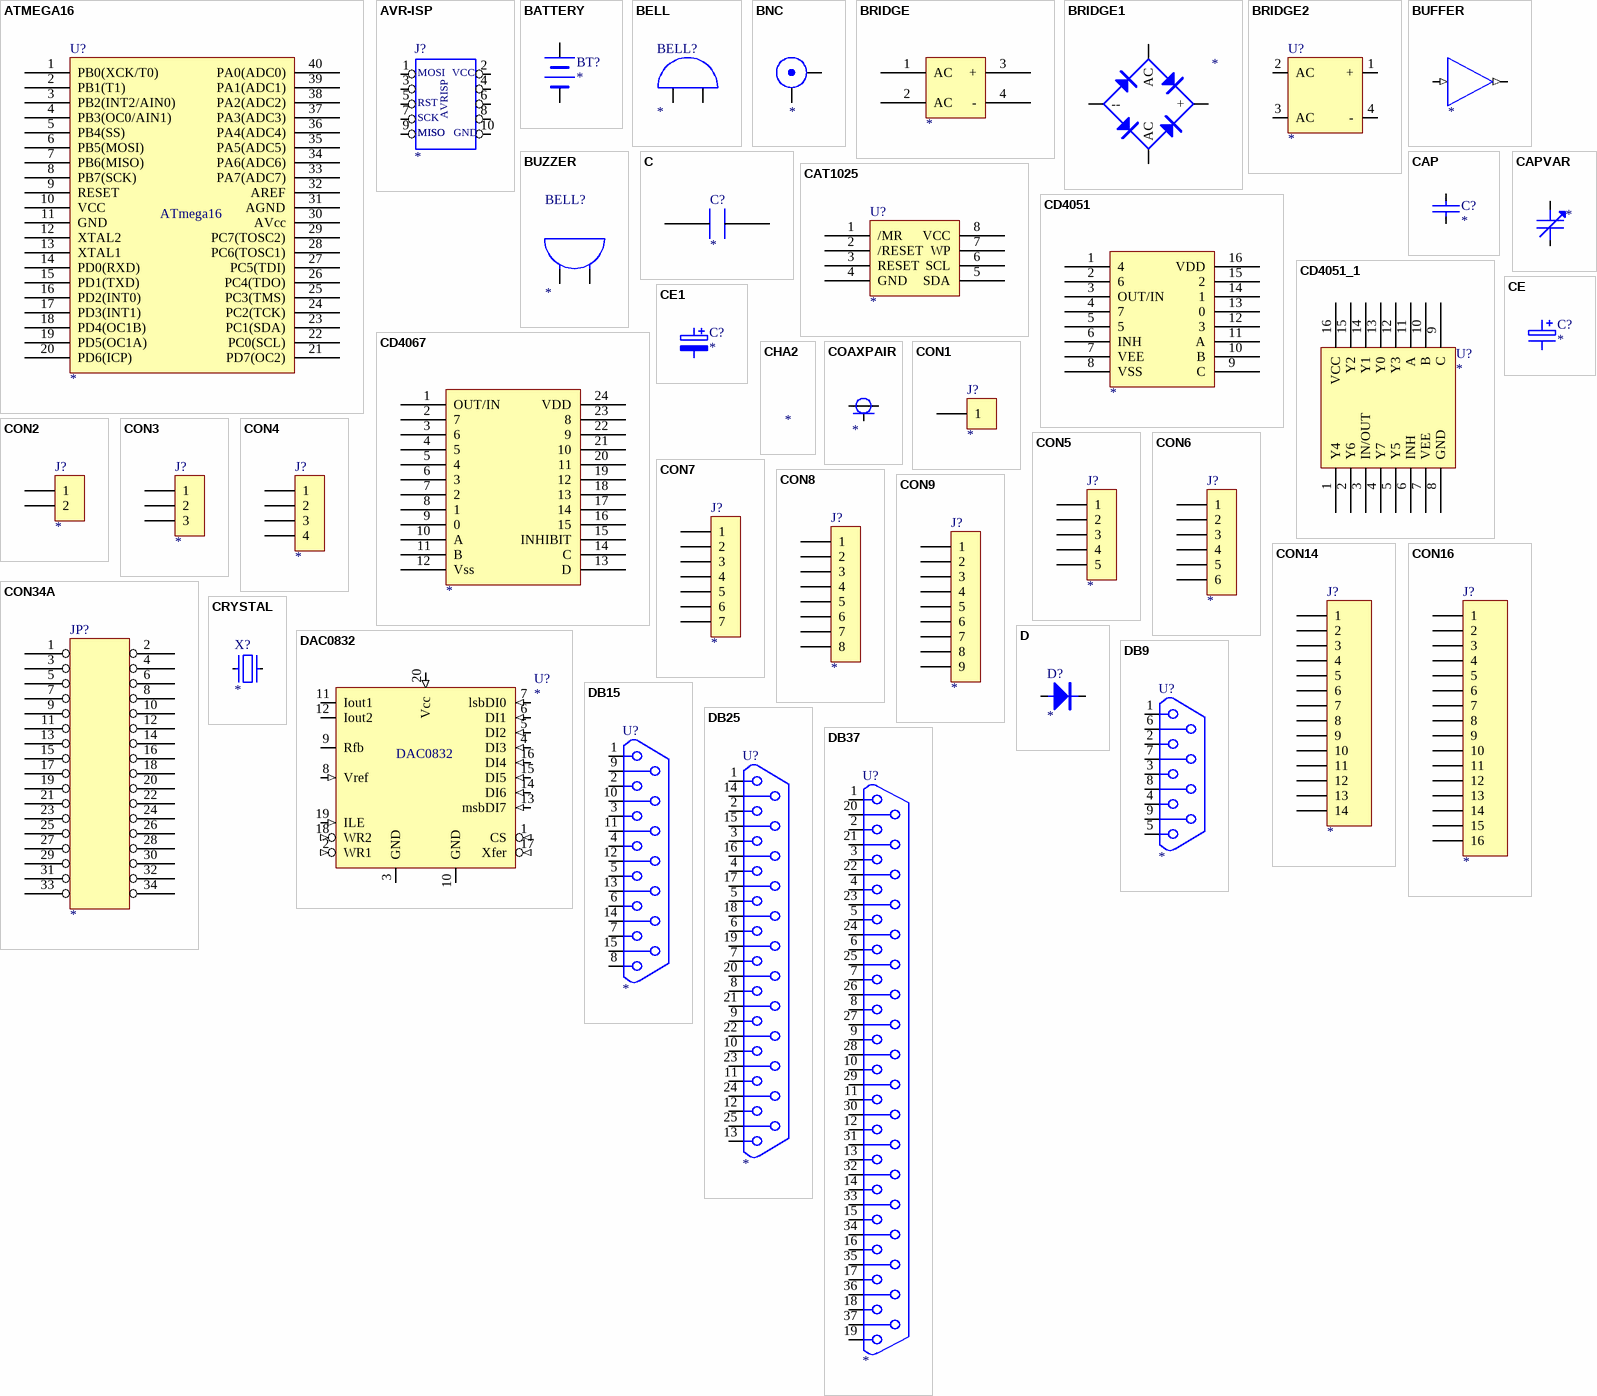
[diagram p3: symbols ATMEGA16 to DB37]

## ATMEGA16
designator U?
ATMEGA16/16L
footprint DIP40
pins: 1 PB0(XCK/T0), 2 PB1(T1), 3 PB2(INT2/AIN0), 4 PB3(OC0/AIN1), 5 PB4(SS), 6 PB5(MOSI), 7 PB6(MISO), 8 PB7(SCK), 9 RESET, 10 VCC, 11 GND, 12 XTAL2, 13 XTAL1, 14 PD0(RXD), 15 PD1(TXD), 16 PD2(INT0), 17 PD3(INT1), 18 PD4(OC1B), 19 PD5(OC1A), 20 PD6(ICP), 21 PD7(OC2), 22 PC0(SCL), 23 PC1(SDA), 24 PC2(TCK), 25 PC3(TMS), 26 PC4(TDO), 27 PC5(TDI), 28 PC6(TOSC1), 29 PC7(TOSC2), 30 AVcc, 31 AGND, 32 AREF, 33 PA7(ADC7), 34 PA6(ADC6), 35 PA5(ADC5), 36 PA4(ADC4), 37 PA3(ADC3), 38 PA2(ADC2), 39 PA1(ADC1), 40 PA0(ADC0)
text: ATmega16

## AVR-ISP
designator J?
footprint IDC10A
pins: 1, 2, 3, 4, 5, 6, 7, 8, 9, 10
text: MOSI; VCC; RST; AVRISP; SCK; MISO; GND

## BATTERY
designator BT?
footprint CON2
pins: 1, 2

## BELL
designator BELL?
footprint CON2
pins: 1, 2

## BNC
designator ?
pins: 1, 2

## BRIDGE
designator ?
pins: 1 AC, 2 AC, 3 +, 4 -

## BRIDGE1
designator ?
pins: 1 +, 2 AC, 3 AC, 4 --

## BRIDGE2
designator U?
footprint BRIDGE-5A
pins: 1 +, 2 AC, 3 AC, 4 -

## BUFFER
designator ?
pins: 1 (in), 2 (out)

## BUZZER
designator BELL?
footprint CON2
pins: 1, 2

## C
designator C?
footprint C
pins: 1, 2

## CAP
designator C?
footprint 0805
footprint RAD0.1
pins: 1, 2

## CAPVAR
designator ?
pins: 1, 2

## CAT1025
designator U?
CAT1025
footprint SO8
pins: 1 /MR, 2 /RESET, 3 RESET, 4 GND, 5 SDA, 6 SCL, 7 WP, 8 VCC

## CD4051
designator ?
pins: 1 4, 2 6, 3 OUT/IN, 4 7, 5, 6 INH, 7 VEE, 8 VSS, 9 C, 10 B, 11 A, 12 3, 13 0, 14 1, 15 2, 16 VDD

## CD4051_1
designator U?
pins: 1 Y4, 2 Y6, 3 IN/OUT, 4 Y7, 5 Y5, 6 INH, 7 VEE, 8 GND, 9 C, 10 B, 11 A, 12 Y3, 13 Y0, 14 Y1, 15 Y2, 16 VCC

## CD4067
designator ?
pins: 1 OUT/IN, 2 7, 3 6, 4 5, 5 4, 6 3, 7 2, 8 1, 9 0, 10 A, 11 B, 12 Vss, 13 D, 14 C, 15 INHIBIT, 16 15, 17 14, 18 13, 19 12, 20 11, 21 10, 22 9, 23 8, 24 VDD

## CE
designator C?
footprint CE1
footprint CE2
footprint CE5
footprint C_SM
pins: 1 +, 2 -

## CE1
designator C?
footprint CE1
footprint CE2
footprint CE5
pins: 1, 2

## CHA2
designator ?

## COAXPAIR
designator ?
pins: 1, 2, 3

## CON1
designator J?
Connector
pins: 1

## CON2
designator J?
Connector
pins: 1, 2

## CON3
designator J?
Connector
pins: 1, 2, 3

## CON4
designator J?
Connector
pins: 1, 2, 3, 4

## CON5
designator J?
Connector
pins: 1, 2, 3, 4, 5

## CON6
designator J?
Connector
pins: 1, 2, 3, 4, 5, 6

## CON7
designator J?
Connector
pins: 1, 2, 3, 4, 5, 6, 7

## CON8
designator J?
Connector
footprint HDR1X8HA
pins: 1, 2, 3, 4, 5, 6, 7, 8

## CON9
designator J?
CON9
footprint SIP9
pins: 1, 2, 3, 4, 5, 6, 7, 8, 9

## CON14
designator J?
Connector
pins: 1, 2, 3, 4, 5, 6, 7, 8, 9, 10, 11, 12, 13, 14

## CON16
designator J?
Connector
pins: 1, 2, 3, 4, 5, 6, 7, 8, 9, 10, 11, 12, 13, 14, 15, 16

## CON34A
designator JP?
footprint HDR2X17/2.0
pins: 1, 2, 3, 4, 5, 6, 7, 8, 9, 10, 11, 12, 13, 14, 15, 16, 17, 18, 19, 20, 21, 22, 23, 24, 25, 26, 27, 28, 29, 30, 31, 32, 33, 34

## CRYSTAL
designator X?
footprint XTAL
footprint X32768
pins: 1, 2

## D
designator D?
footprint 1N4004
footprint 1N4148
pins: 1, 2

## DAC0832
designator U?
footprint DIP20
pins: 1 CS (in), 2 WR1 (in), 3 GND, 4 DI3 (in), 5 DI2 (in), 6 DI1 (in), 7 lsbDI0 (in), 8 Vref (in), 9 Rfb, 10 GND, 11 Iout1, 12 Iout2, 13 msbDI7 (in), 14 DI6 (in), 15 DI5 (in), 16 DI4 (in), 17 Xfer (in), 18 WR2 (in), 19 ILE (in), 20 Vcc (in)

## DB9
designator U?
footprint DB9
pins: 1, 2, 3, 4, 5, 6, 7, 8, 9

## DB15
designator U?
footprint DB15
pins: 1, 2, 3, 4, 5, 6, 7, 8, 9, 10, 11, 12, 13, 14, 15

## DB25
designator U?
footprint DB25
pins: 1, 2, 3, 4, 5, 6, 7, 8, 9, 10, 11, 12, 13, 14, 15, 16, 17, 18, 19, 20, 21, 22, 23, 24, 25

## DB37
designator U?
footprint DB37
pins: 1, 2, 3, 4, 5, 6, 7, 8, 9, 10, 11, 12, 13, 14, 15, 16, 17, 18, 19, 20, 21, 22, 23, 24, 25, 26, 27, 28, 29, 30, 31, 32, 33, 34, 35, 36, 37

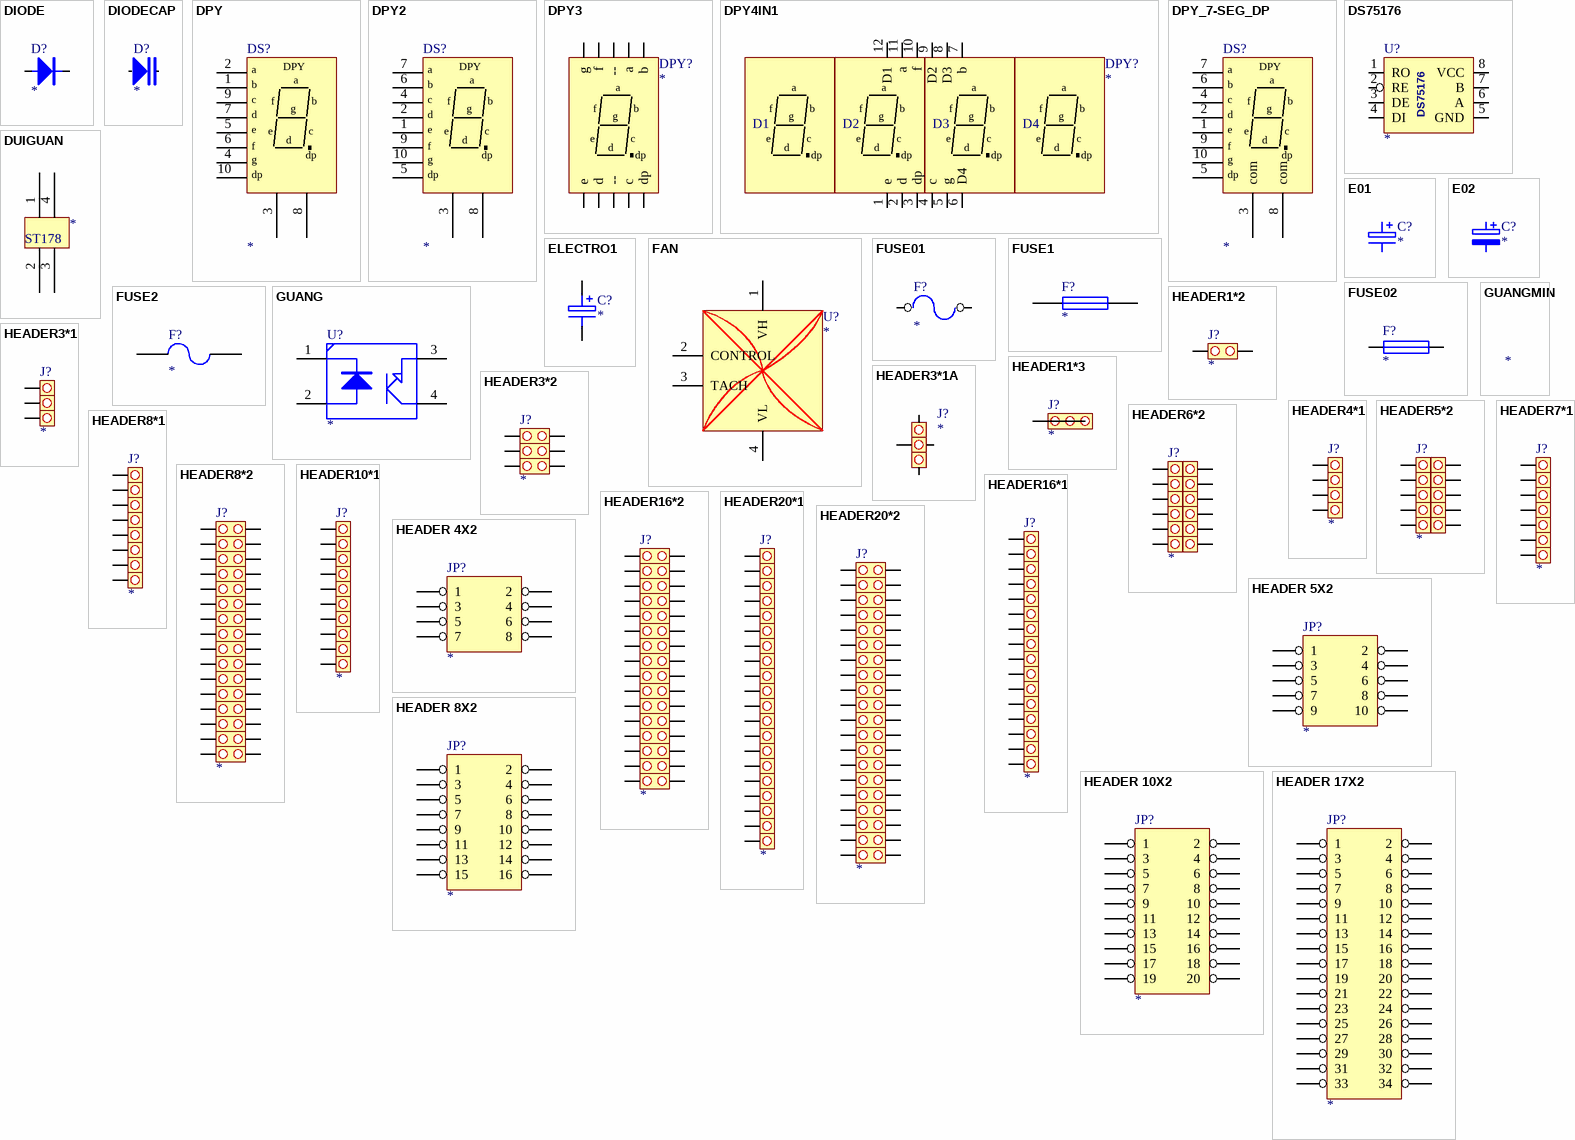
[diagram p4: symbols DIODE to HEADER 17X2]

## DIODE
designator D?
footprint 1N4004
footprint 1N4148
pins: 1, 2

## DIODECAP
designator D?
footprint 1N4004
footprint 1N4148
pins: 1, 2

## DPY
designator DS?
Seven-Segment Display, Right Hand Decimal
footprint DIP10
pins: 1 b, 2 a, 3 COM, 4 g, 5 e, 6 f, 7 d, 8 COM, 9 c, 10 dp

## DPY2
designator DS?
Seven-Segment Display, Right Hand Decimal
footprint DIP10
pins: 1 E, 2 D, 3 COM, 4 C, 5 DP, 6 B, 7 A, 8 COM, 9 F, 10 G
text: DPY; a; b; c; f; g; d; e; dp

## DPY3
designator DPY?
DPY
footprint DPY
pins: 1 e, 2 d, 3 --, 4 c, 5 dp, 6 b, 7 a, 8 --, 9 f, 10 g

## DPY4IN1
designator DPY?
DPY 4 IN 1
footprint DPY4IN1
pins: 1 e, 2 d, 3 dp, 4 c, 5 g, 6 D4, 7 b, 8 D3, 9 D2, 10 f, 11 a, 12 D1

## DPY_7-SEG_DP
designator DS?
Seven-Segment Display, Right Hand Decimal
pins: 1 e, 2 d, 3 com, 4 c, 5 dp, 6 b, 7 a, 8 com, 9 f, 10 g
text: DPY

## DS75176
designator U?
footprint SOP8
pins: 1 RO, 2 RE, 3 DE, 4 DI, 5 GND, 6 A, 7 B, 8 VCC

## DUIGUAN
designator ?
pins: 1  , 2  , 3  , 4  
text: ST178

## E01
designator C?
footprint CE1
footprint CE2
footprint CE5
pins: 1, 2

## E02
designator C?
footprint CE1
footprint CE2
footprint CE5
pins: 1, 2

## ELECTRO1
designator C?
Electrolytic Capacitor
footprint ELEC2
pins: 1, 2

## FAN
designator U?
FAN
pins: 1 VH, 2 CONTROL, 3 TACH, 4 VL

## FUSE01
designator F?
pins: 1, 2

## FUSE1
designator F?
Fuse
pins: 1, 2

## FUSE02
designator F?
footprint FUSE02
pins: 1, 2

## FUSE2
designator F?
Fuse
pins: 1, 2

## GUANG
designator U?
ST178 IR
footprint ST178
pins: 1, 2, 3, 4

## GUANGMIN
designator ?

## HEADER1*2
designator J?
HEADER1*2
footprint SIP2
pins: 1, 2

## HEADER1*3
designator J?
HEADER1*3
footprint SIP3
pins: 1, 2, 3

## HEADER3*1
designator J?
HEADER3*1
footprint SIP3
pins: 1, 2, 3

## HEADER3*1A
designator J?
HEADER3*1A
footprint SIP3
pins: 1, 2, 3

## HEADER3*2
designator J?
HEADER3*2
footprint HDR2X3
pins: 1, 2, 3, 4, 5, 6

## HEADER4*1
designator J?
HEADER4*1
footprint SIP4
pins: 1, 2, 3, 4

## HEADER5*2
designator J?
HEADER5*2
footprint HDR2X5
footprint IDC10A
pins: 1, 2, 3, 4, 5, 6, 7, 8, 9, 10

## HEADER6*2
designator J?
HEADER6*2
footprint HDR2X6
pins: 1, 2, 3, 4, 5, 6, 7, 8, 9, 10, 11, 12

## HEADER7*1
designator J?
HEADER7*1
footprint SIP7
pins: 1, 2, 3, 4, 5, 6, 7

## HEADER8*1
designator J?
HEADER8*1
footprint SIP8
pins: 1, 2, 3, 4, 5, 6, 7, 8

## HEADER8*2
designator J?
HEADER16*2
footprint HDR2X16
pins: 1, 2, 3, 4, 5, 6, 7, 8, 9, 10, 11, 12, 13, 14, 15, 16, 17, 18, 19, 20, 21, 22, 23, 24, 25, 26, 27, 28, 29, 30, 31, 32

## HEADER10*1
designator J?
HEADER10*1
footprint SIP10
pins: 1, 2, 3, 4, 5, 6, 7, 8, 9, 10

## HEADER16*1
designator J?
HEADER16*1
footprint SIP16
pins: 1, 2, 3, 4, 5, 6, 7, 8, 9, 10, 11, 12, 13, 14, 15, 16

## HEADER16*2
designator J?
HEADER16*2
footprint HDR2X16
pins: 1, 2, 3, 4, 5, 6, 7, 8, 9, 10, 11, 12, 13, 14, 15, 16, 17, 18, 19, 20, 21, 22, 23, 24, 25, 26, 27, 28, 29, 30, 31, 32

## HEADER20*1
designator J?
HEADER20*1
footprint SIP20
pins: 1, 2, 3, 4, 5, 6, 7, 8, 9, 10, 11, 12, 13, 14, 15, 16, 17, 18, 19, 20

## HEADER20*2
designator J?
HEADER20*2
footprint HDR2X20
pins: 1, 2, 3, 4, 5, 6, 7, 8, 9, 10, 11, 12, 13, 14, 15, 16, 17, 18, 19, 20, 21, 22, 23, 24, 25, 26, 27, 28, 29, 30, 31, 32, 33, 34, 35, 36, 37, 38, 39, 40

## HEADER 4X2
designator JP?
pins: 1, 2, 3, 4, 5, 6, 7, 8

## HEADER 5X2
designator JP?
pins: 1, 2, 3, 4, 5, 6, 7, 8, 9, 10

## HEADER 8X2
designator JP?
pins: 1, 2, 3, 4, 5, 6, 7, 8, 9, 10, 11, 12, 13, 14, 15, 16

## HEADER 10X2
designator JP?
footprint HDR2X10/2.0
pins: 1, 2, 3, 4, 5, 6, 7, 8, 9, 10, 11, 12, 13, 14, 15, 16, 17, 18, 19, 20

## HEADER 17X2
designator JP?
footprint HDR2X17/2.0
pins: 1, 2, 3, 4, 5, 6, 7, 8, 9, 10, 11, 12, 13, 14, 15, 16, 17, 18, 19, 20, 21, 22, 23, 24, 25, 26, 27, 28, 29, 30, 31, 32, 33, 34

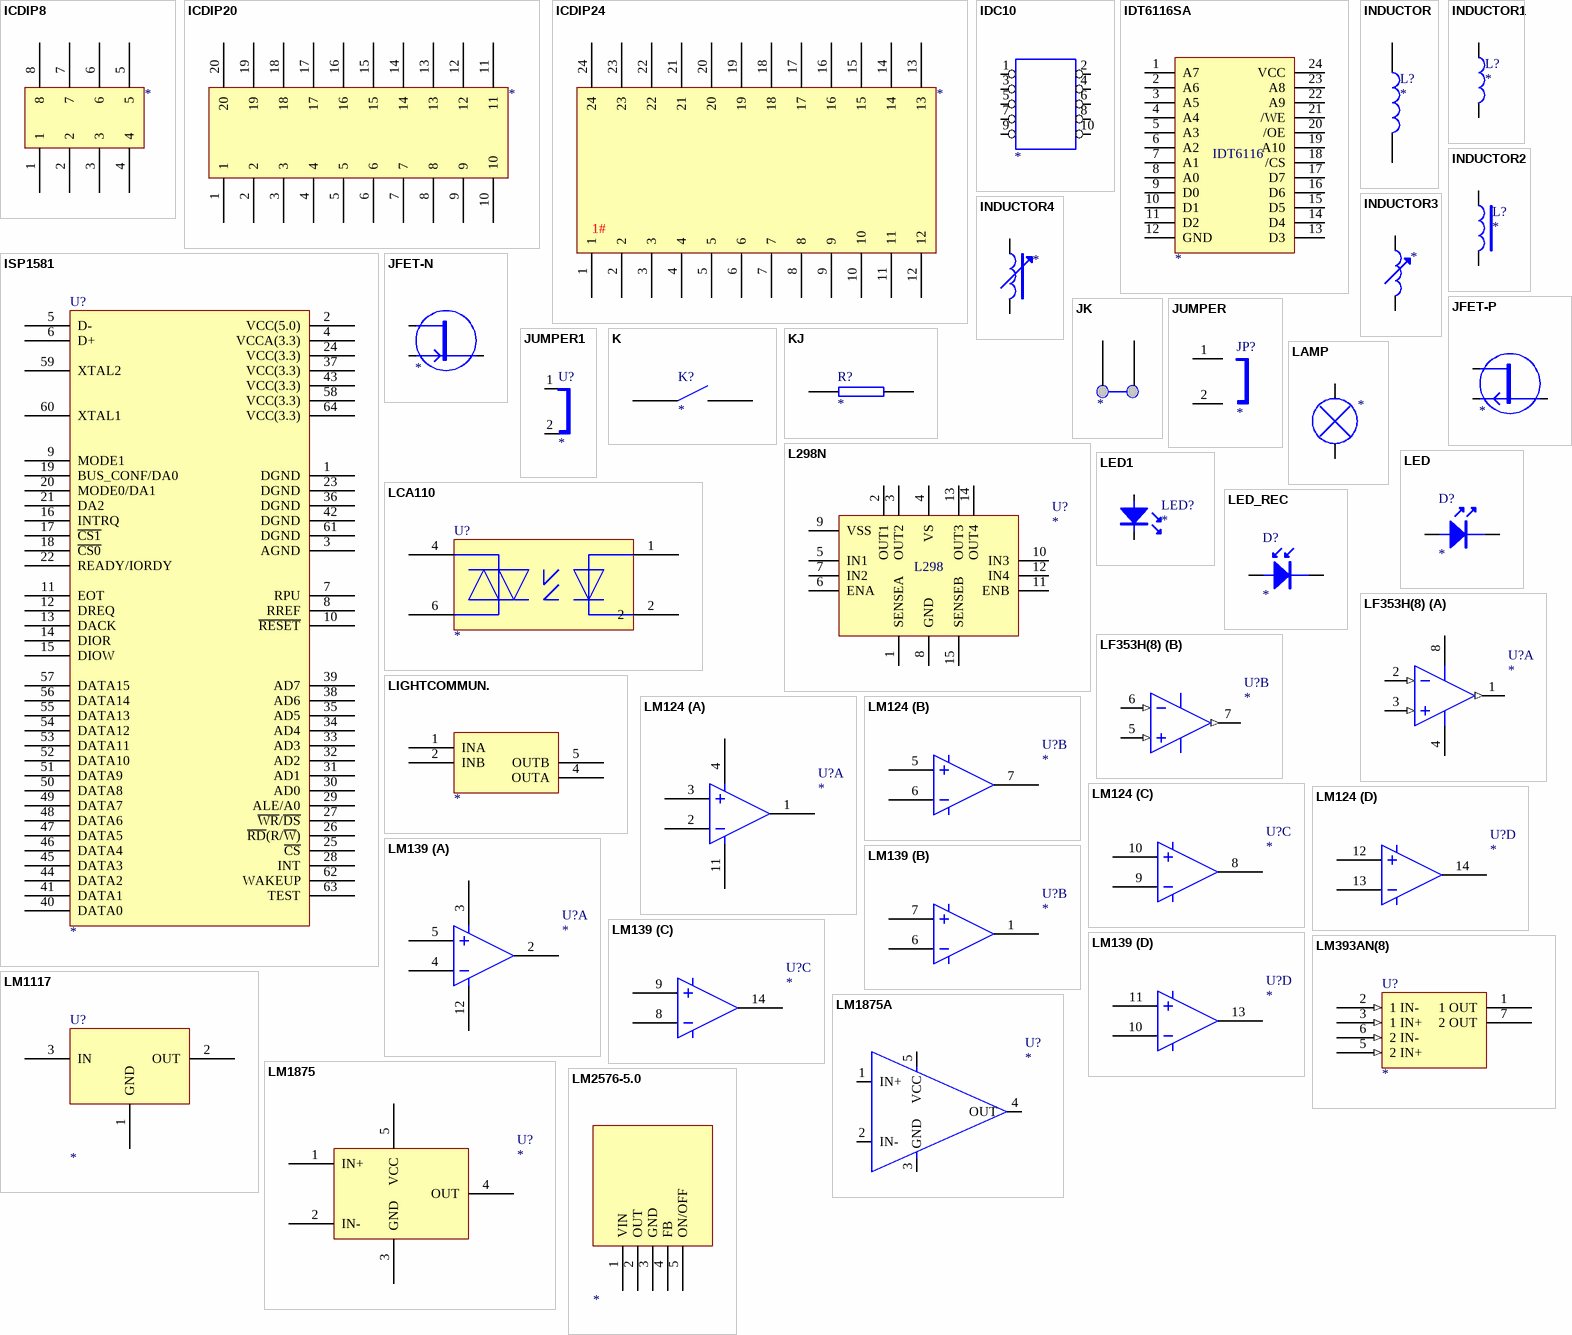
[diagram p5: symbols ICDIP8 to LM2576-5.0]

## ICDIP8
designator ?
pins: 1, 2, 3, 4, 5, 6, 7, 8

## ICDIP20
designator ?
pins: 1, 2, 3, 4, 5, 6, 7, 8, 9, 10, 11, 12, 13, 14, 15, 16, 17, 18, 19, 20

## ICDIP24
designator ?
pins: 1, 2, 3, 4, 5, 6, 7, 8, 9, 10, 11, 12, 13, 14, 15, 16, 17, 18, 19, 20, 21, 22, 23, 24
text: 1#

## IDC10
designator ?
pins: 1, 2, 3, 4, 5, 6, 7, 8, 9, 10

## IDT6116SA
designator ?
pins: 1 A7, 2 A6, 3 A5, 4 A4, 5 A3, 6 A2, 7 A1, 8 A0, 9 D0, 10 D1, 11 D2, 12 GND, 13 D3, 14 D4, 15 D5, 16 D6, 17 D7, 18 /CS, 19 A10, 20 /OE, 21 /WE, 22 A9, 23 A8, 24 VCC
text: IDT6116

## INDUCTOR
designator L?
pins: 1, 2

## INDUCTOR1
designator L?
footprint L
pins: 1, 2

## INDUCTOR2
designator L?
footprint L
pins: 1, 2

## INDUCTOR3
designator ?
pins: 1, 2

## INDUCTOR4
designator ?
pins: 1, 2

## ISP1581
designator U?
footprint QFP-64
pins: 1 DGND, 2 VCC(5.0), 3 AGND, 4 VCCA(3.3), 5 D-, 6 D+, 7 RPU, 8 RREF, 9 MODE1, 10 ~{RESET}, 11 EOT, 12 DREQ, 13 DACK, 14 DIOR, 15 DIOW, 16 INTRQ, 17 ~{CS1}, 18 ~{CS0}, 19 BUS_CONF/DA0, 20 MODE0/DA1, 21 DA2, 22 READY/IORDY, 23 DGND, 24 VCC(3.3), 25 ~{CS}, 26 ~{RD}(R/~{W}), 27 ~{WR}/~{DS}, 28 INT, 29 ALE/A0, 30 AD0, 31 AD1, 32 AD2, 33 AD3, 34 AD4, 35 AD5, 36 DGND, 37 VCC(3.3), 38 AD6, 39 AD7, 40 DATA0, 41 DATA1, 42 DGND, 43 VCC(3.3), 44 DATA2, 45 DATA3, 46 DATA4, 47 DATA5, 48 DATA6, 49 DATA7, 50 DATA8, 51 DATA9, 52 DATA10, 53 DATA11, 54 DATA12, 55 DATA13, 56 DATA14, 57 DATA15, 58 VCC(3.3), 59 XTAL2, 60 XTAL1, 61 DGND, 62 WAKEUP, 63 TEST, 64 VCC(3.3)

## JFET-N
designator ?
pins: 1, 2, 3

## JFET-P
designator ?
pins: 1, 2, 3

## JK
designator ?
pins: 1, 2

## JUMPER
designator JP?
Jumper
footprint RAD0.2
footprint AXIAL 0.6
pins: 1, 2

## JUMPER1
designator U?
footprint RAD0.2
pins: 1, 2

## K
designator K?
pins: 1, 2

## KJ
designator R?
pins: 1, 2

## L298N
designator U?
L298 MOTOR DRIVER
footprint MULTI-15
pins: 1 SENSEA, 2 OUT1, 3 OUT2, 4 VS, 5 IN1, 6 ENA, 7 IN2, 8 GND, 9 VSS, 10 IN3, 11 ENB, 12 IN4, 13 OUT3, 14 OUT4, 15 SENSEB
text: L298

## LAMP
designator ?
pins: 1, 2

## LCA110
designator U?
LCA110
pins: 1, 2, 4, 6

## LED
designator D?
LED
footprint LED
pins: 1, 2

## LED1
designator LED?
footprint LED
pins: 1, 2

## LED_REC
designator D?
LED
footprint RB-.2/.4
footprint LED
pins: 1 A, 2 K

## LF353H(8)
designator U?
Fast Settling Dual Operational Amplifier; Text Field1: pristel=Nsc\nsanopea\<parttype>.ckt
footprint DIP8
footprint SO-8
part A pins: 1 OUT1 (out), 2 IN1- (in), 3 IN1+ (in), 4 V- (power), 8 V+ (power)
part B pins: 5 IN2+ (in), 6 IN2- (in), 7 OUT2 (out)

## LIGHTCOMMUN.
designator ?
pins: 1 INA, 2 INB, 3 NC hidden to NC, 4 OUTA, 5 OUTB, 6 NC hidden to NC

## LM124
designator U?
footprint DIP-14
part A pins: 1, 2, 3, 4, 11
part B pins: 5, 6, 7
part C pins: 8, 9, 10
part D pins: 12, 13, 14

## LM139
designator U?
footprint DIP-14
part A pins: 2, 3, 4, 5, 12
part B pins: 1, 6, 7
part C pins: 8, 9, 14
part D pins: 10, 11, 13

## LM393AN(8)
designator U?
Low Offset Voltage Dual Comparators
footprint DIP-8
pins: 1 1 OUT (oc), 2 1 IN- (in), 3 1 IN+ (in), 4 VSS (power) hidden to VSS, 5 2 IN+ (in), 6 2 IN- (in), 7 2 OUT (oc), 8 VCC (power) hidden to VCC

## LM1117
designator U?
pins: 1 GND, 2 OUT, 3 IN

## LM1875
designator U?
LM1875
pins: 1 IN+, 2 IN-, 3 GND, 4 OUT, 5 VCC

## LM1875A
designator U?
pins: 1 IN+, 2 IN-, 3 GND, 4 OUT, 5 VCC

## LM2576-5.0
designator ?
pins: 1 VIN, 2 OUT, 3 GND, 4 FB, 5 ON/OFF

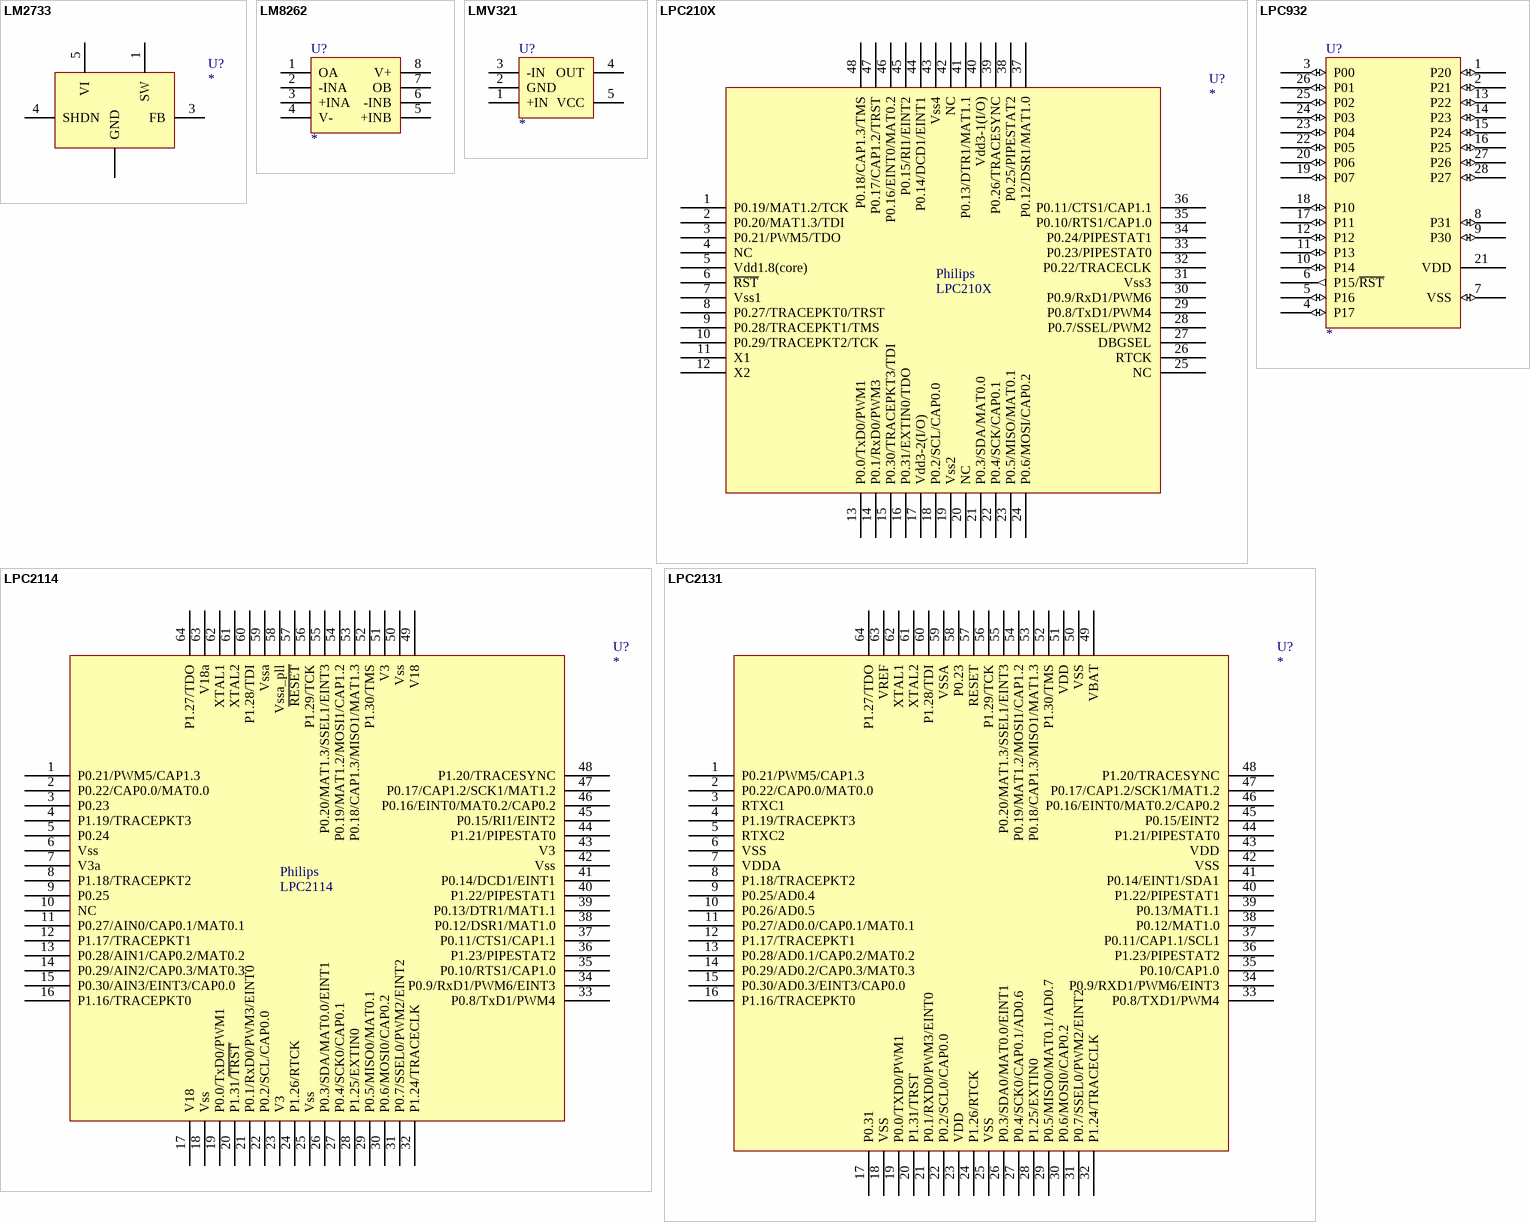
[diagram p6: symbols LM2733 to LPC2131]

## LM2733
designator U?
footprint SOT23-5
pins: 1 SW, 2 GND, 3 FB, 4 SHDN, 5 VI

## LM8262
designator U?
footprint SOP8
footprint MSOP8
pins: 1 OA, 2 -INA, 3 +INA, 4 V-, 5 +INB, 6 -INB, 7 OB, 8 V+

## LMV321
designator U?
footprint SOT23-5
footprint SC70-5
pins: 1 +IN, 2 GND, 3 -IN, 4 OUT, 5 VCC

## LPC210X
designator U?
footprint TQFP-48
pins: 1 P0.19/MAT1.2/TCK, 2 P0.20/MAT1.3/TDI, 3 P0.21/PWM5/TDO, 4 NC, 5 Vdd1.8(core), 6 ~{RST}, 7 Vss1, 8 P0.27/TRACEPKT0/TRST, 9 P0.28/TRACEPKT1/TMS, 10 P0.29/TRACEPKT2/TCK, 11 X1, 12 X2, 13 P0.0/TxD0/PWM1, 14 P0.1/RxD0/PWM3, 15 P0.30/TRACEPKT3/TDI, 16 P0.31/EXTIN0/TDO, 17 Vdd3-2(I/O), 18 P0.2/SCL/CAP0.0, 19 Vss2, 20 NC, 21 P0.3/SDA/MAT0.0, 22 P0.4/SCK/CAP0.1, 23 P0.5/MISO/MAT0.1, 24 P0.6/MOSI/CAP0.2, 25 NC, 26 RTCK, 27 DBGSEL, 28 P0.7/SSEL/PWM2, 29 P0.8/TxD1/PWM4, 30 P0.9/RxD1/PWM6, 31 Vss3, 32 P0.22/TRACECLK, 33 P0.23/PIPESTAT0, 34 P0.24/PIPESTAT1, 35 P0.10/RTS1/CAP1.0, 36 P0.11/CTS1/CAP1.1, 37 P0.12/DSR1/MAT1.0, 38 P0.25/PIPESTAT2, 39 P0.26/TRACESYNC, 40 Vdd3-1(I/O), 41 P0.13/DTR1/MAT1.1, 42 NC, 43 Vss4, 44 P0.14/DCD1/EINT1, 45 P0.15/RI1/EINT2, 46 P0.16/EINT0/MAT0.2, 47 P0.17/CAP1.2/TRST, 48 P0.18/CAP1.3/TMS
text: Philips

## LPC932
designator U?
footprint TSSOP-28
pins: 1 P20 (io), 2 P21 (io), 3 P00 (io), 4 P17 (io), 5 P16 (io), 6 P15/~{RST} (out), 7 VSS (io), 8 P31 (io), 9 P30 (io), 10 P14 (io), 11 P13 (io), 12 P12 (io), 13 P22 (io), 14 P23 (io), 15 P24 (io), 16 P25 (io), 17 P11 (io), 18 P10 (io), 19 P07 (io), 20 P06 (io), 21 VDD (power), 22 P05 (io), 23 P04 (io), 24 P03 (io), 25 P02 (io), 26 P01 (io), 27 P26 (io), 28 P27 (io)

## LPC2114
designator U?
footprint QFP-64
pins: 1 P0.21/PWM5/CAP1.3, 2 P0.22/CAP0.0/MAT0.0, 3 P0.23, 4 P1.19/TRACEPKT3, 5 P0.24, 6 Vss, 7 V3a, 8 P1.18/TRACEPKT2, 9 P0.25, 10 NC, 11 P0.27/AIN0/CAP0.1/MAT0.1, 12 P1.17/TRACEPKT1, 13 P0.28/AIN1/CAP0.2/MAT0.2, 14 P0.29/AIN2/CAP0.3/MAT0.3, 15 P0.30/AIN3/EINT3/CAP0.0, 16 P1.16/TRACEPKT0, 17 V18, 18 Vss, 19 P0.0/TxD0/PWM1, 20 P1.31/~{TRST}, 21 P0.1/RxD0/PWM3/EINT0, 22 P0.2/SCL/CAP0.0, 23 V3, 24 P1.26/RTCK, 25 Vss, 26 P0.3/SDA/MAT0.0/EINT1, 27 P0.4/SCK0/CAP0.1, 28 P1.25/EXTIN0, 29 P0.5/MISO0/MAT0.1, 30 P0.6/MOSI0/CAP0.2, 31 P0.7/SSEL0/PWM2/EINT2, 32 P1.24/TRACECLK, 33 P0.8/TxD1/PWM4, 34 P0.9/RxD1/PWM6/EINT3, 35 P0.10/RTS1/CAP1.0, 36 P1.23/PIPESTAT2, 37 P0.11/CTS1/CAP1.1, 38 P0.12/DSR1/MAT1.0, 39 P0.13/DTR1/MAT1.1, 40 P1.22/PIPESTAT1, 41 P0.14/DCD1/EINT1, 42 Vss, 43 V3, 44 P1.21/PIPESTAT0, 45 P0.15/RI1/EINT2, 46 P0.16/EINT0/MAT0.2/CAP0.2, 47 P0.17/CAP1.2/SCK1/MAT1.2, 48 P1.20/TRACESYNC, 49 V18, 50 Vss, 51 V3, 52 P1.30/TMS, 53 P0.18/CAP1.3/MISO1/MAT1.3, 54 P0.19/MAT1.2/MOSI1/CAP1.2, 55 P0.20/MAT1.3/SSEL1/EINT3, 56 P1.29/TCK, 57 ~{RESET}, 58 Vssa_pll, 59 Vssa, 60 P1.28/TDI, 61 XTAL2, 62 XTAL1, 63 V18a, 64 P1.27/TDO
text: Philips

## LPC2131
designator U?
pins: 1 P0.21/PWM5/CAP1.3, 2 P0.22/CAP0.0/MAT0.0, 3 RTXC1, 4 P1.19/TRACEPKT3, 5 RTXC2, 6 VSS, 7 VDDA, 8 P1.18/TRACEPKT2, 9 P0.25/AD0.4, 10 P0.26/AD0.5, 11 P0.27/AD0.0/CAP0.1/MAT0.1, 12 P1.17/TRACEPKT1, 13 P0.28/AD0.1/CAP0.2/MAT0.2, 14 P0.29/AD0.2/CAP0.3/MAT0.3, 15 P0.30/AD0.3/EINT3/CAP0.0, 16 P1.16/TRACEPKT0, 17 P0.31, 18 VSS, 19 P0.0/TXD0/PWM1, 20 P1.31/TRST, 21 P0.1/RXD0/PWM3/EINT0, 22 P0.2/SCL0/CAP0.0, 23 VDD, 24 P1.26/RTCK, 25 VSS, 26 P0.3/SDA0/MAT0.0/EINT1, 27 P0.4/SCK0/CAP0.1/AD0.6, 28 P1.25/EXTIN0, 29 P0.5/MISO0/MAT0.1/AD0.7, 30 P0.6/MOSI0/CAP0.2, 31 P0.7/SSEL0/PWM2/EINT2, 32 P1.24/TRACECLK, 33 P0.8/TXD1/PWM4, 34 P0.9/RXD1/PWM6/EINT3, 35 P0.10/CAP1.0, 36 P1.23/PIPESTAT2, 37 P0.11/CAP1.1/SCL1, 38 P0.12/MAT1.0, 39 P0.13/MAT1.1, 40 P1.22/PIPESTAT1, 41 P0.14/EINT1/SDA1, 42 VSS, 43 VDD, 44 P1.21/PIPESTAT0, 45 P0.15/EINT2, 46 P0.16/EINT0/MAT0.2/CAP0.2, 47 P0.17/CAP1.2/SCK1/MAT1.2, 48 P1.20/TRACESYNC, 49 VBAT, 50 VSS, 51 VDD, 52 P1.30/TMS, 53 P0.18/CAP1.3/MISO1/MAT1.3, 54 P0.19/MAT1.2/MOSI1/CAP1.2, 55 P0.20/MAT1.3/SSEL1/EINT3, 56 P1.29/TCK, 57 RESET, 58 P0.23, 59 VSSA, 60 P1.28/TDI, 61 XTAL2, 62 XTAL1, 63 VREF, 64 P1.27/TDO

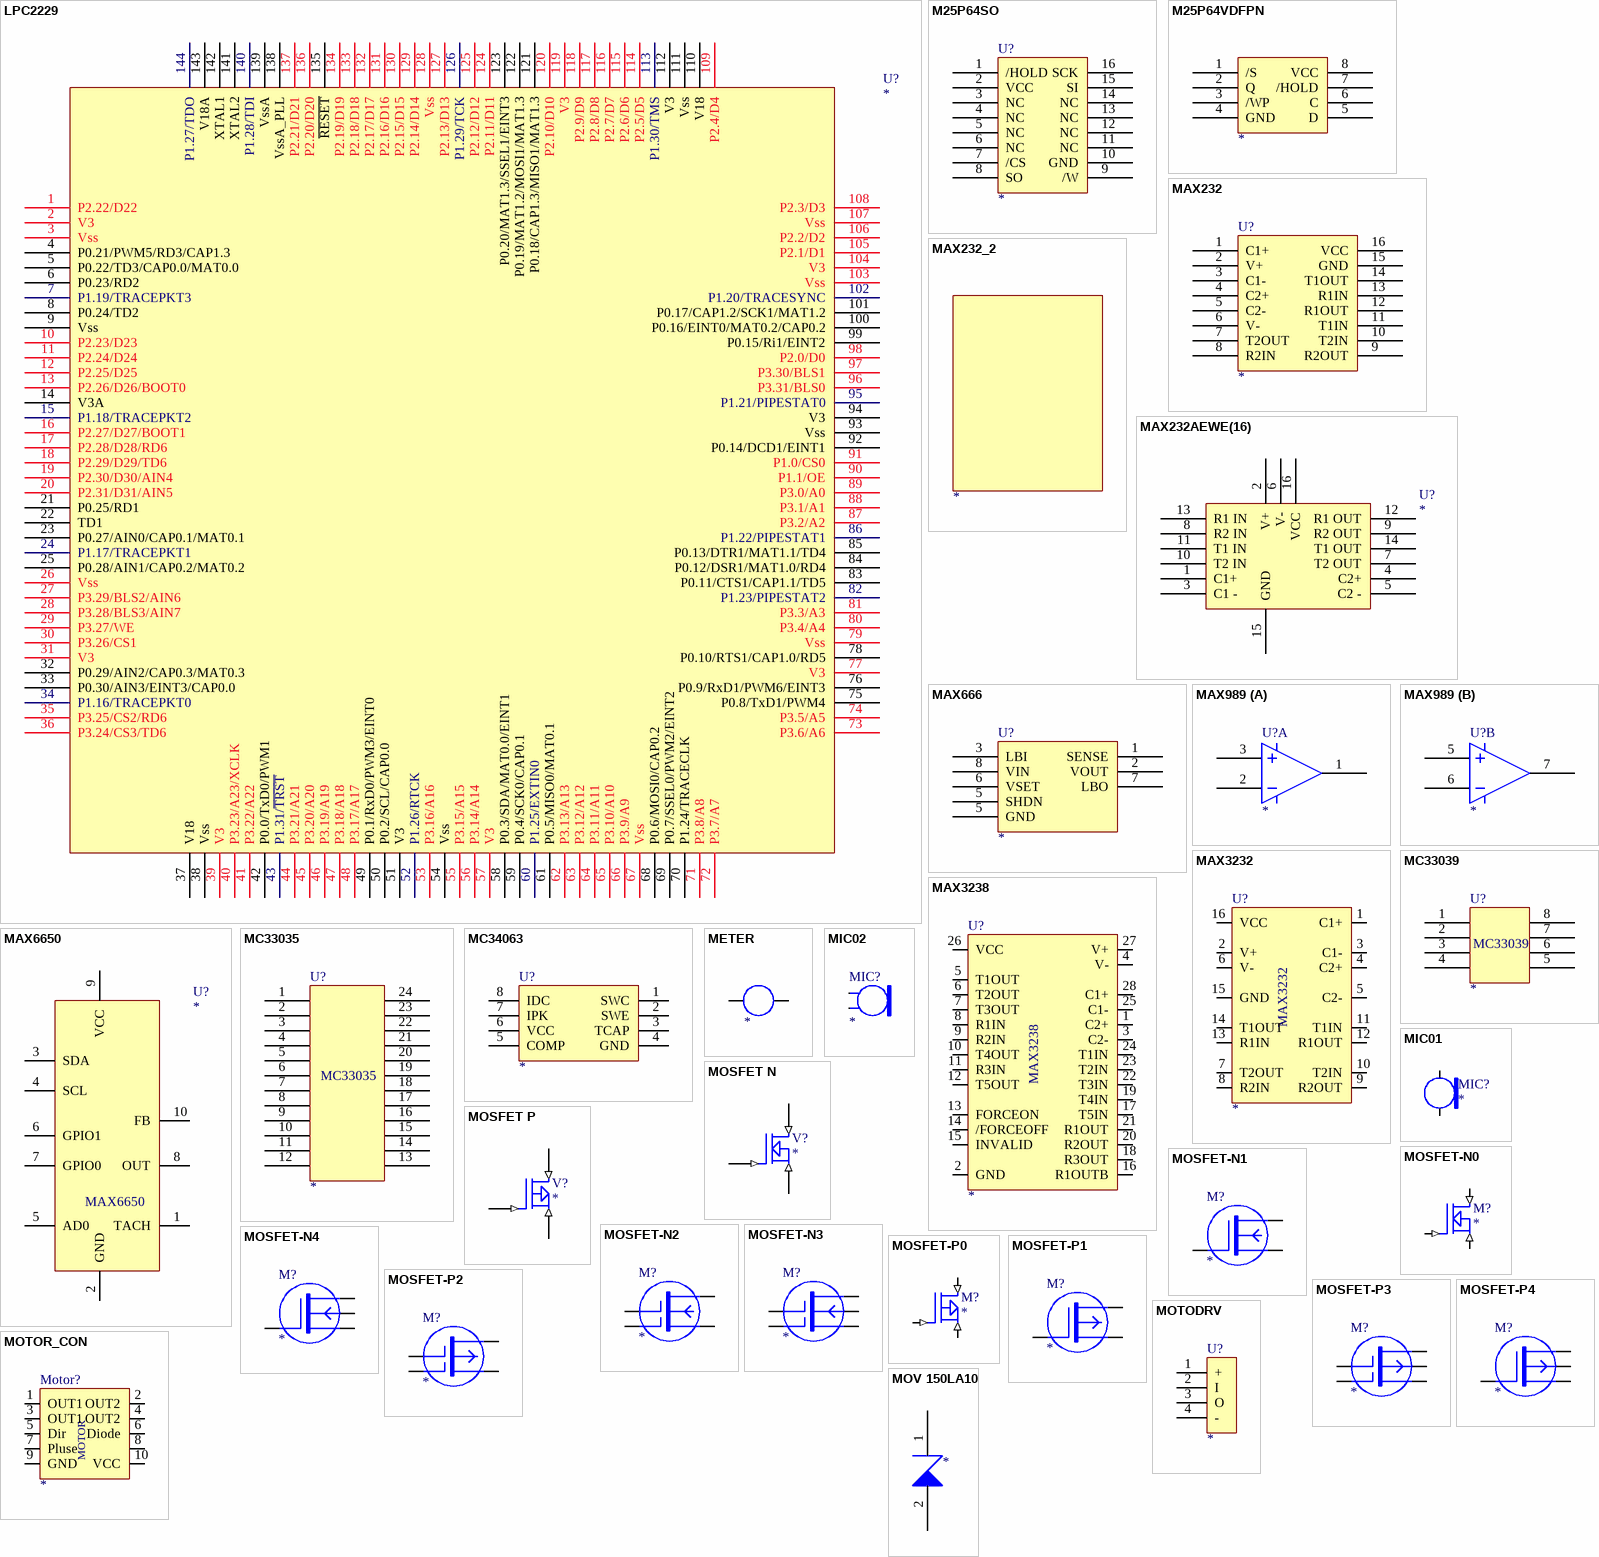
[diagram p7: symbols LPC2229 to MOV 150LA10]

## LPC2229
designator U?
footprint TQFP-144
pins: 1 P2.22/D22, 2 V3, 3 Vss, 4 P0.21/PWM5/RD3/CAP1.3, 5 P0.22/TD3/CAP0.0/MAT0.0, 6 P0.23/RD2, 7 P1.19/TRACEPKT3, 8 P0.24/TD2, 9 Vss, 10 P2.23/D23, 11 P2.24/D24, 12 P2.25/D25, 13 P2.26/D26/BOOT0, 14 V3A, 15 P1.18/TRACEPKT2, 16 P2.27/D27/BOOT1, 17 P2.28/D28/RD6, 18 P2.29/D29/TD6, 19 P2.30/D30/AIN4, 20 P2.31/D31/AIN5, 21 P0.25/RD1, 22 TD1, 23 P0.27/AIN0/CAP0.1/MAT0.1, 24 P1.17/TRACEPKT1, 25 P0.28/AIN1/CAP0.2/MAT0.2, 26 Vss, 27 P3.29/BLS2/AIN6, 28 P3.28/BLS3/AIN7, 29 P3.27/WE, 30 P3.26/CS1, 31 V3, 32 P0.29/AIN2/CAP0.3/MAT0.3, 33 P0.30/AIN3/EINT3/CAP0.0, 34 P1.16/TRACEPKT0, 35 P3.25/CS2/RD6, 36 P3.24/CS3/TD6, 37 V18, 38 Vss, 39 V3, 40 P3.23/A23/XCLK, 41 P3.22/A22, 42 P0.0/TxD0/PWM1, 43 P1.31/~{TRST}, 44 P3.21/A21, 45 P3.20/A20, 46 P3.19/A19, 47 P3.18/A18, 48 P3.17/A17, 49 P0.1/RxD0/PWM3/EINT0, 50 P0.2/SCL/CAP0.0, 51 V3, 52 P1.26/RTCK, 53 P3.16/A16, 54 Vss, 55 P3.15/A15, 56 P3.14/A14, 57 V3, 58 P0.3/SDA/MAT0.0/EINT1, 59 P0.4/SCK0/CAP0.1, 60 P1.25/EXTIN0, 61 P0.5/MISO0/MAT0.1, 62 P3.13/A13, 63 P3.12/A12, 64 P3.11/A11, 65 P3.10/A10, 66 P3.9/A9, 67 Vss, 68 P0.6/MOSI0/CAP0.2, 69 P0.7/SSEL0/PWM2/EINT2, 70 P1.24/TRACECLK, 71 P3.8/A8, 72 P3.7/A7, 73 P3.6/A6, 74 P3.5/A5, 75 P0.8/TxD1/PWM4, 76 P0.9/RxD1/PWM6/EINT3, 77 V3, 78 P0.10/RTS1/CAP1.0/RD5, 79 Vss, 80 P3.4/A4, 81 P3.3/A3, 82 P1.23/PIPESTAT2, 83 P0.11/CTS1/CAP1.1/TD5, 84 P0.12/DSR1/MAT1.0/RD4, 85 P0.13/DTR1/MAT1.1/TD4, 86 P1.22/PIPESTAT1, 87 P3.2/A2, 88 P3.1/A1, 89 P3.0/A0, 90 P1.1/OE, 91 P1.0/CS0, 92 P0.14/DCD1/EINT1, 93 Vss, 94 V3, 95 P1.21/PIPESTAT0, 96 P3.31/BLS0, 97 P3.30/BLS1, 98 P2.0/D0, 99 P0.15/Ri1/EINT2, 100 P0.16/EINT0/MAT0.2/CAP0.2, 101 P0.17/CAP1.2/SCK1/MAT1.2, 102 P1.20/TRACESYNC, 103 Vss, 104 V3, 105 P2.1/D1, 106 P2.2/D2, 107 Vss, 108 P2.3/D3, 109 P2.4/D4, 110 V18, 111 Vss, 112 V3, 113 P1.30/TMS, 114 P2.5/D5, 115 P2.6/D6, 116 P2.7/D7, 117 P2.8/D8, 118 P2.9/D9, 119 V3, 120 P2.10/D10, 121 P0.18/CAP1.3/MISO1/MAT1.3, 122 P0.19/MAT1.2/MOSI1/MAT1.3, 123 P0.20/MAT1.3/SSEL1/EINT3, 124 P2.11/D11, 125 P2.12/D12, 126 P1.29/TCK, 127 P2.13/D13, 128 Vss, 129 P2.14/D14, 130 P2.15/D15, 131 P2.16/D16, 132 P2.17/D17, 133 P2.18/D18, 134 P2.19/D19, 135 ~{RESET}, 136 P2.20/D20, 137 P2.21/D21, 138 VssA_PLL, 139 VssA, 140 P1.28/TDI, 141 XTAL2, 142 XTAL1, 143 V18A, 144 P1.27/TDO

## M25P64SO
designator U?
M25P64 SOIC
footprint SO16
pins: 1 /HOLD, 2 VCC, 3 NC, 4 NC, 5 NC, 6 NC, 7 /CS, 8 SO, 9 /W, 10 GND, 11 NC, 12 NC, 13 NC, 14 NC, 15 SI, 16 SCK

## M25P64VDFPN
designator ?
pins: 1 /S, 2 Q, 3 /WP, 4 GND, 5 D, 6 C, 7 /HOLD, 8 VCC

## MAX232
designator U?
pins: 1 C1+, 2 V+, 3 C1-, 4 C2+, 5 C2-, 6 V-, 7 T2OUT, 8 R2IN, 9 R2OUT, 10 T2IN, 11 T1IN, 12 R1OUT, 13 R1IN, 14 T1OUT, 15 GND, 16 VCC

## MAX232_2
designator ?

## MAX232AEWE(16)
designator U?
+-15KV ESD-PROTECTED, +5V RS-232 TRANSCEIVERS
footprint DIP-16
footprint SO16
pins: 1 C1+, 2 V+, 3 C1 -, 4 C2+, 5 C2 -, 6 V-, 7 T2 OUT, 8 R2 IN, 9 R2 OUT, 10 T2 IN, 11 T1 IN, 12 R1 OUT, 13 R1 IN, 14 T1 OUT, 15 GND, 16 VCC

## MAX666
designator U?
MAX666
pins: 1 SENSE, 2 VOUT, 3 LBI, 5 SHDN, 5 GND, 6 VSET, 7 LBO, 8 VIN

## MAX989
designator U?
Micropower, Low-Voltage, UCSP/SC70,Rail-to-Rail I/O Comparators
footprint SOT23
footprint uMAX
part A pins: 1, 2, 3, 4 VEE (power) hidden to VEE, 8 VCC (power) hidden to VCC
part B pins: 5, 6, 7

## MAX3232
designator U?
pins: 1 C1+, 2 V+, 3 C1-, 4 C2+, 5 C2-, 6 V-, 7 T2OUT, 8 R2IN, 9 R2OUT, 10 T2IN, 11 T1IN, 12 R1OUT, 13 R1IN, 14 T1OUT, 15 GND, 16 VCC

## MAX3238
designator U?
pins: 1 C2+, 2 GND, 3 C2-, 4 V-, 5 T1OUT, 6 T2OUT, 7 T3OUT, 8 R1IN, 9 R2IN, 10 T4OUT, 11 R3IN, 12 T5OUT, 13 FORCEON, 14 /FORCEOFF, 15 INVALID, 16 R1OUTB, 17 T5IN, 18 R3OUT, 19 T4IN, 20 R2OUT, 21 R1OUT, 22 T3IN, 23 T2IN, 24 T1IN, 25 C1-, 26 VCC, 27 V+, 28 C1+

## MAX6650
designator U?
MAX6650 Fan-Speed Regulators and Monitors with I2C/SMBus Interface
footprint uMAX
pins: 1 TACH, 2 GND, 3 SDA, 4 SCL, 5 AD0, 6 GPIO1, 7 GPIO0, 8 OUT, 9 VCC, 10 FB

## MC33035
designator U?
mc33035
footprint DIP-24
pins: 1, 2, 3, 4, 5, 6, 7, 8, 9, 10, 11, 12, 13, 14, 15, 16, 17, 18, 19, 20, 21, 22, 23, 24

## MC33039
designator U?
MC33039
footprint DIP-8
pins: 1, 2, 3, 4, 5, 6, 7, 8

## MC34063
designator U?
footprint SO8
footprint SO-8
pins: 1 SWC, 2 SWE, 3 TCAP, 4 GND, 5 COMP, 6 VCC, 7 IPK, 8 IDC

## METER
designator ?
pins: 1, 2

## MIC01
designator MIC?
footprint CON2
pins: 1, 2

## MIC02
designator MIC?
footprint CON2
pins: 1, 2

## MOSFET N
designator V?
footprint TO-220
pins: 1 G (in), 2 D (in), 3 S (in)

## MOSFET P
designator V?
footprint TO-220
pins: 1 G (in), 2 D (in), 3 S (in)

## MOSFET-N0
designator M?
footprint TO-220M
pins: D (in), G (in), S (in)

## MOSFET-N1
designator M?
pins: 1, 2, 3

## MOSFET-N2
designator M?
pins: 1, 2, 3, 4

## MOSFET-N3
designator M?
pins: 1, 2, 3, 4, 5

## MOSFET-N4
designator M?
pins: 1, 2, 3, 4

## MOSFET-P0
designator M?
footprint TO-220M
pins: D (in), G (in), S (in)

## MOSFET-P1
designator M?
pins: 1, 2, 3

## MOSFET-P2
designator M?
pins: 1, 2, 3, 4

## MOSFET-P3
designator M?
pins: 1, 2, 3, 4, 5

## MOSFET-P4
designator M?
pins: 1, 2, 3, 4

## MOTODRV
designator U?
Motor Driver Model
footprint DRIVER1
pins: 1 +, 2 I, 3 O, 4 -

## MOTOR_CON
designator Motor?
pins: 1 OUT1, 2 OUT2, 3 OUT1, 4 OUT2, 5 Dir, 6 Diode, 7 Pluse, 8, 9 GND, 10 VCC
text: MOTOR

## MOV 150LA10
designator ?
pins: 1 A, 2 K

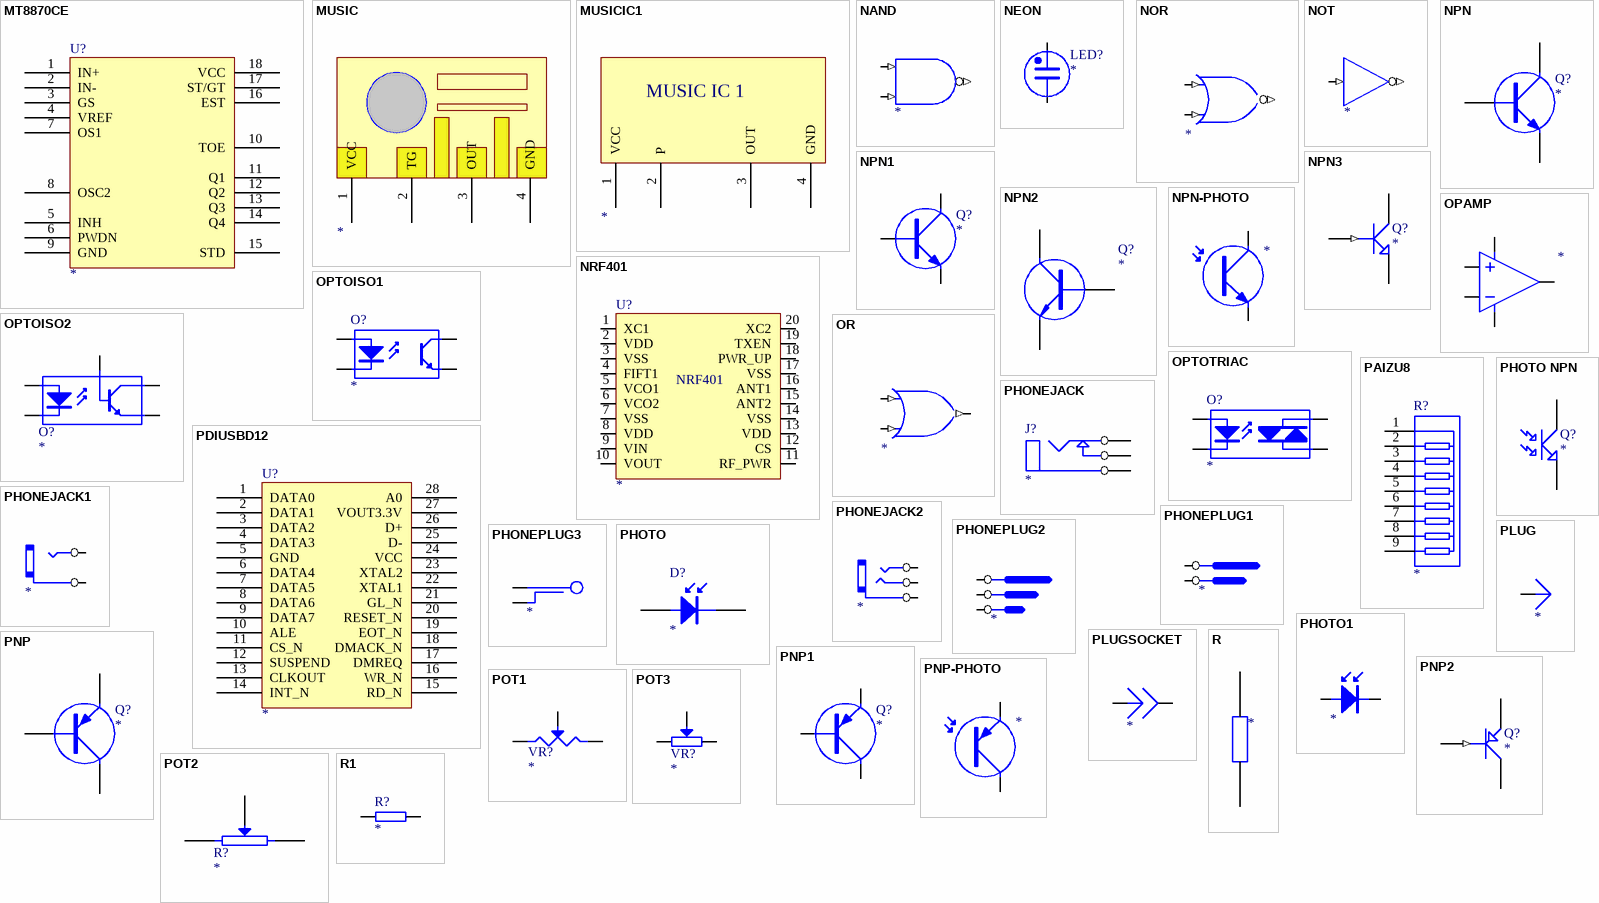
[diagram p8: symbols MT8870CE to R1]

## MT8870CE
designator U?
MT8870CE
pins: 1 IN+, 2 IN-, 3 GS, 4 VREF, 5 INH, 6 PWDN, 7 OS1, 8 OSC2, 9 GND, 10 TOE, 11 Q1, 12 Q2, 13 Q3, 14 Q4, 15 STD, 16 EST, 17 ST/GT, 18 VCC

## MUSIC
designator ?
pins: 1 VCC (power), 2 TG, 3 OUT, 4 GND (power)

## MUSICIC1
designator ?
pins: 1 VCC, 2 P, 3 OUT, 4 GND
text: MUSIC IC 1

## NAND
designator ?
pins: 1 (in), 2 (in), 3 (out)

## NEON
designator LED?
footprint CON2
pins: 1, 2

## NOR
designator ?
pins: 1 (in), 2 (in), 3 (out)

## NOT
designator ?
pins: 1 (in), 2 (out)

## NPN
designator Q?
NPN Transistor
footprint TO-92B
footprint SOT-23
pins: 1 B, 2 E, 3 C

## NPN1
designator Q?
footprint SOT-23
footprint TO-92B
footprint TO-92D
footprint TO-92E
pins: 1 B, 2 E, 3 C

## NPN2
designator Q?
NPN Transistor
pins: 1 B, 2 E, 3 C

## NPN3
designator Q?
NPN Transistor
pins: 1 B (in), 2 E, 3 C

## NPN-PHOTO
designator ?
pins: C, E

## NRF401
designator U?
footprint DIP20
pins: 1 XC1, 2 VDD, 3 VSS, 4 FIFT1, 5 VCO1, 6 VCO2, 7 VSS, 8 VDD, 9 VIN, 10 VOUT, 11 RF_PWR, 12 CS, 13 VDD, 14 VSS, 15 ANT2, 16 ANT1, 17 VSS, 18 PWR_UP, 19 TXEN, 20 XC2

## OPAMP
designator ?
pins: 1, 2, 3, 4, 5

## OPTOISO1
designator O?
pins: A, C, E, K

## OPTOISO2
designator O?
pins: A, B, C, E, K

## OPTOTRIAC
designator O?
pins: 1, 2, 3, 4

## OR
designator ?
pins: 1 (in), 2 (in), 3 (out)

## PAIZU8
designator R?
8PAIZU
footprint SIP9
pins: 1, 2, 3, 4, 5, 6, 7, 8, 9

## PDIUSBD12
designator U?
footprint TSSOP-28
pins: 1 DATA0, 2 DATA1, 3 DATA2, 4 DATA3, 5 GND, 6 DATA4, 7 DATA5, 8 DATA6, 9 DATA7, 10 ALE, 11 CS_N, 12 SUSPEND, 13 CLKOUT, 14 INT_N, 15 RD_N, 16 WR_N, 17 DMREQ, 18 DMACK_N, 19 EOT_N, 20 RESET_N, 21 GL_N, 22 XTAL1, 23 XTAL2, 24 VCC, 25 D-, 26 D+, 27 VOUT3.3V, 28 A0

## PHONEJACK
designator J?
pins: 1 A, 2 B, 3 C

## PHONEJACK1
designator ?
pins: 1, 2

## PHONEJACK2
designator ?
pins: 1, 2, 3

## PHONEPLUG1
designator ?
pins: 1, 2

## PHONEPLUG2
designator ?
pins: 1, 2, 3

## PHONEPLUG3
designator ?
pins: 1, 2

## PHOTO
designator D?
Photosensitive Diode
pins: 1 A, 2 K

## PHOTO1
designator ?
pins: 1, 2

## PHOTO NPN
designator Q?
NPN Phototransistor
pins: 1 C, 2 E

## PLUG
designator ?
pins: 1

## PLUGSOCKET
designator ?
pins: 1, 2

## PNP
designator Q?
PNP Transistor
pins: 1 B, 2 E, 3 C

## PNP1
designator Q?
footprint SOT-23
footprint TO-92B
footprint TO-92D
footprint TO-92E
pins: 1 B, 2 E, 3 C

## PNP2
designator Q?
PNP Transistor
pins: 1 B (in), 2 E, 3 C

## PNP-PHOTO
designator ?
pins: C, E

## POT1
designator VR?
footprint VR
pins: 1, 2, 3

## POT2
designator R?
Potentiometer
footprint RP
pins: 1, 2, 3 W

## POT3
designator VR?
footprint SIP3
pins: 1, 2, 3

## R
designator ?
footprint AXIAL 0.4
pins: 1, 2

## R1
designator R?
footprint 0805
footprint 0603
footprint 1206
pins: 1, 2

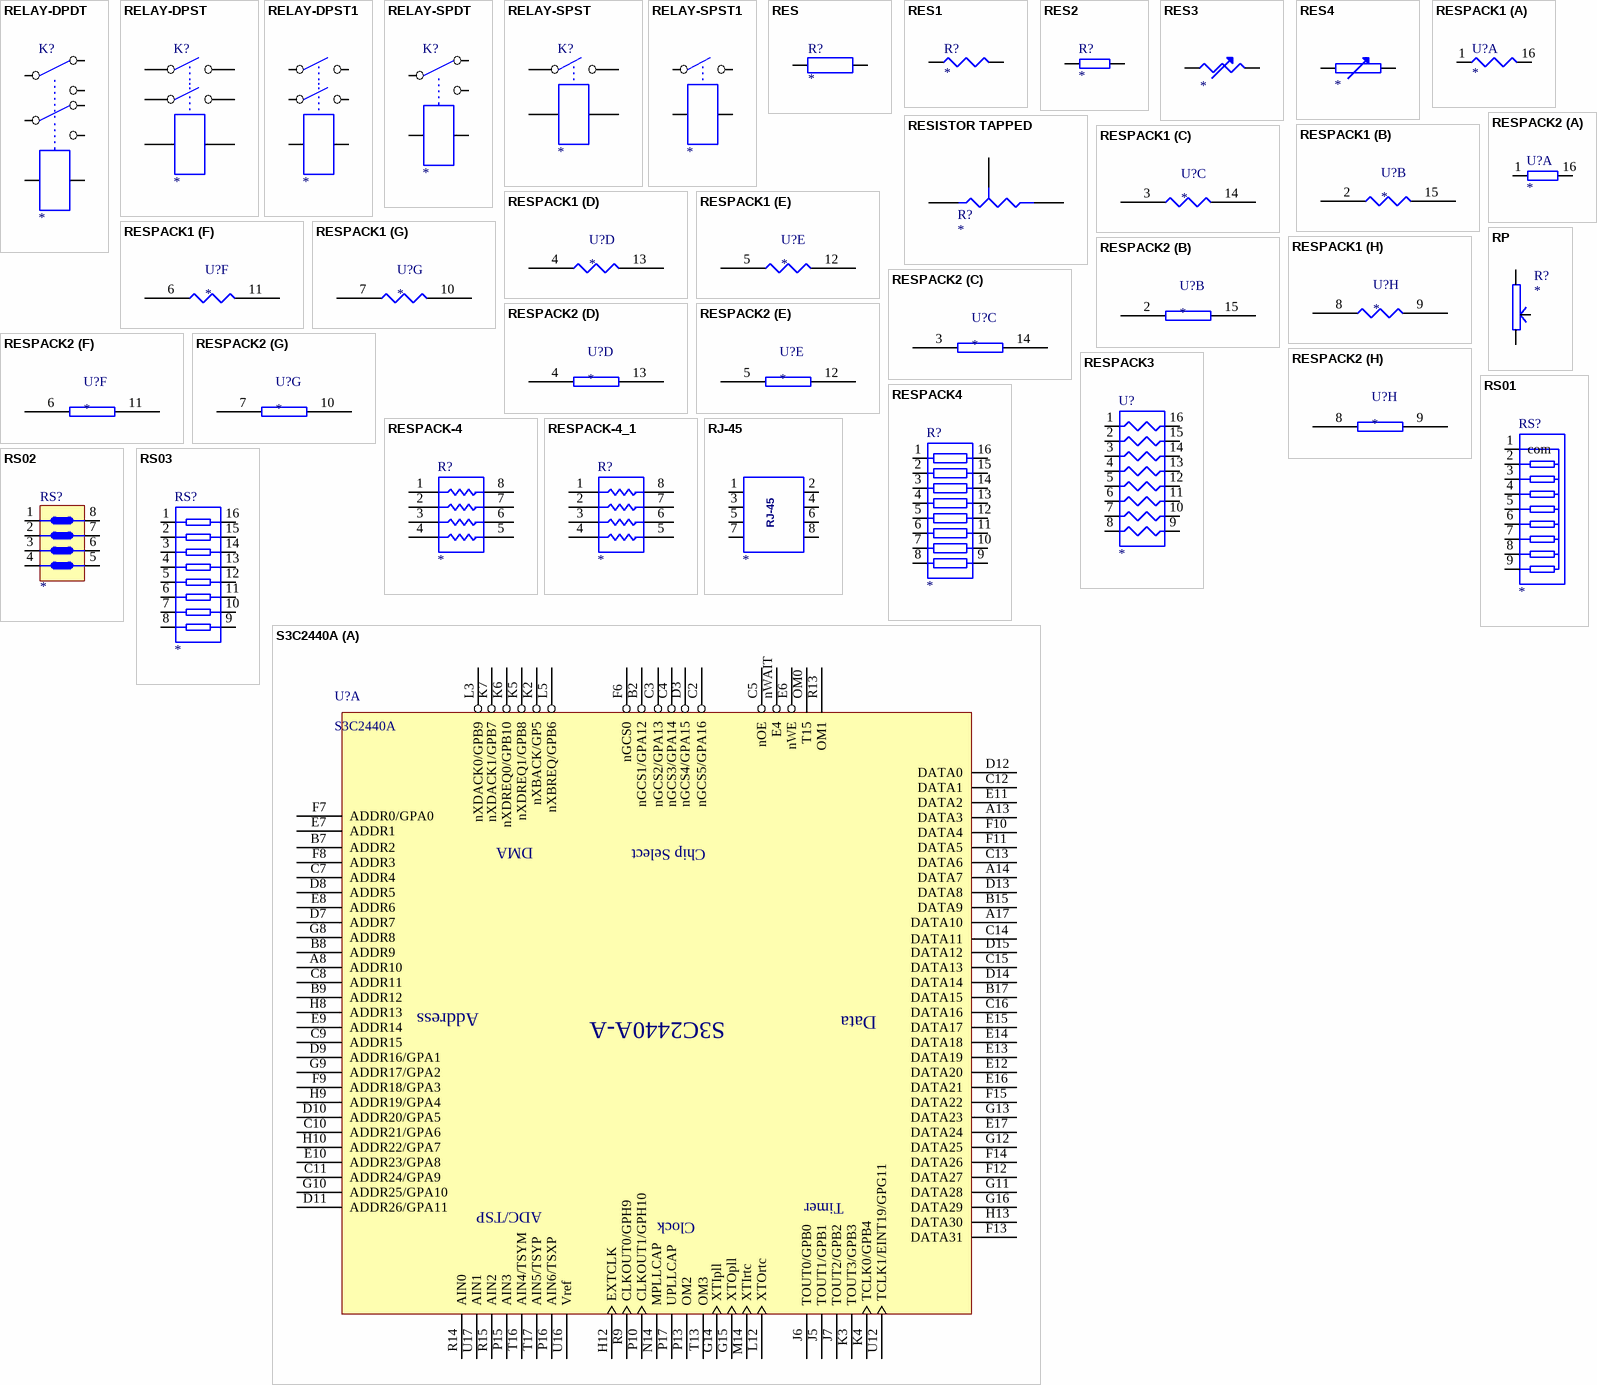
[diagram p9: symbols RELAY-DPDT to S3C2440A]

## RELAY-DPDT
designator K?
pins: 1, 2, 3, 4, 5, 6, 7, 8

## RELAY-DPST
designator K?
pins: 1, 2, 3, 4, 5, 6

## RELAY-DPST1
designator ?
pins: 1, 2, 3, 4, 5, 6

## RELAY-SPDT
designator K?
pins: 1, 2, 3, 4, 5

## RELAY-SPST
designator K?
pins: 1, 2, 3, 4

## RELAY-SPST1
designator ?
pins: 1, 2, 3, 4

## RES
designator R?
footprint RES
pins: 1, 2

## RES1
designator R?
footprint R400
pins: 1, 2

## RES2
designator R?
footprint R400
pins: 1, 2

## RES3
designator ?
pins: 1, 2

## RES4
designator ?
pins: 1, 2

## RESISTOR TAPPED
designator R?
pins: 1 A, 2 B, 3 TAP

## RESPACK1
designator U?
footprint DIP16
part A pins: 1, 16
part B pins: 2, 15
part C pins: 3, 14
part D pins: 4, 13
part E pins: 5, 12
part F pins: 6, 11
part G pins: 7, 10
part H pins: 8, 9

## RESPACK2
designator U?
footprint DIP16
part A pins: 1, 16
part B pins: 2, 15
part C pins: 3, 14
part D pins: 4, 13
part E pins: 5, 12
part F pins: 6, 11
part G pins: 7, 10
part H pins: 8, 9

## RESPACK3
designator U?
footprint DIP16
pins: 1, 2, 3, 4, 5, 6, 7, 8, 9, 10, 11, 12, 13, 14, 15, 16

## RESPACK4
designator R?
footprint DIP16
pins: 1, 2, 3, 4, 5, 6, 7, 8, 9, 10, 11, 12, 13, 14, 15, 16

## RESPACK-4
designator R?
footprint RES3
pins: 1, 2, 3, 4, 5, 6, 7, 8

## RESPACK-4_1
designator R?
footprint RES3
pins: 1, 2, 3, 4, 5, 6, 7, 8

## RJ-45
designator ?
pins: 1, 2, 3, 4, 5, 6, 7, 8

## RP
designator R?
RP
footprint RP
pins: 1, 2, 3

## RS01
designator RS?
footprint SIP9
pins: 1 com, 2, 3, 4, 5, 6, 7, 8, 9

## RS02
designator RS?
pins: 1, 2, 3, 4, 5, 6, 7, 8

## RS03
designator RS?
pins: 1, 2, 3, 4, 5, 6, 7, 8, 9, 10, 11, 12, 13, 14, 15, 16

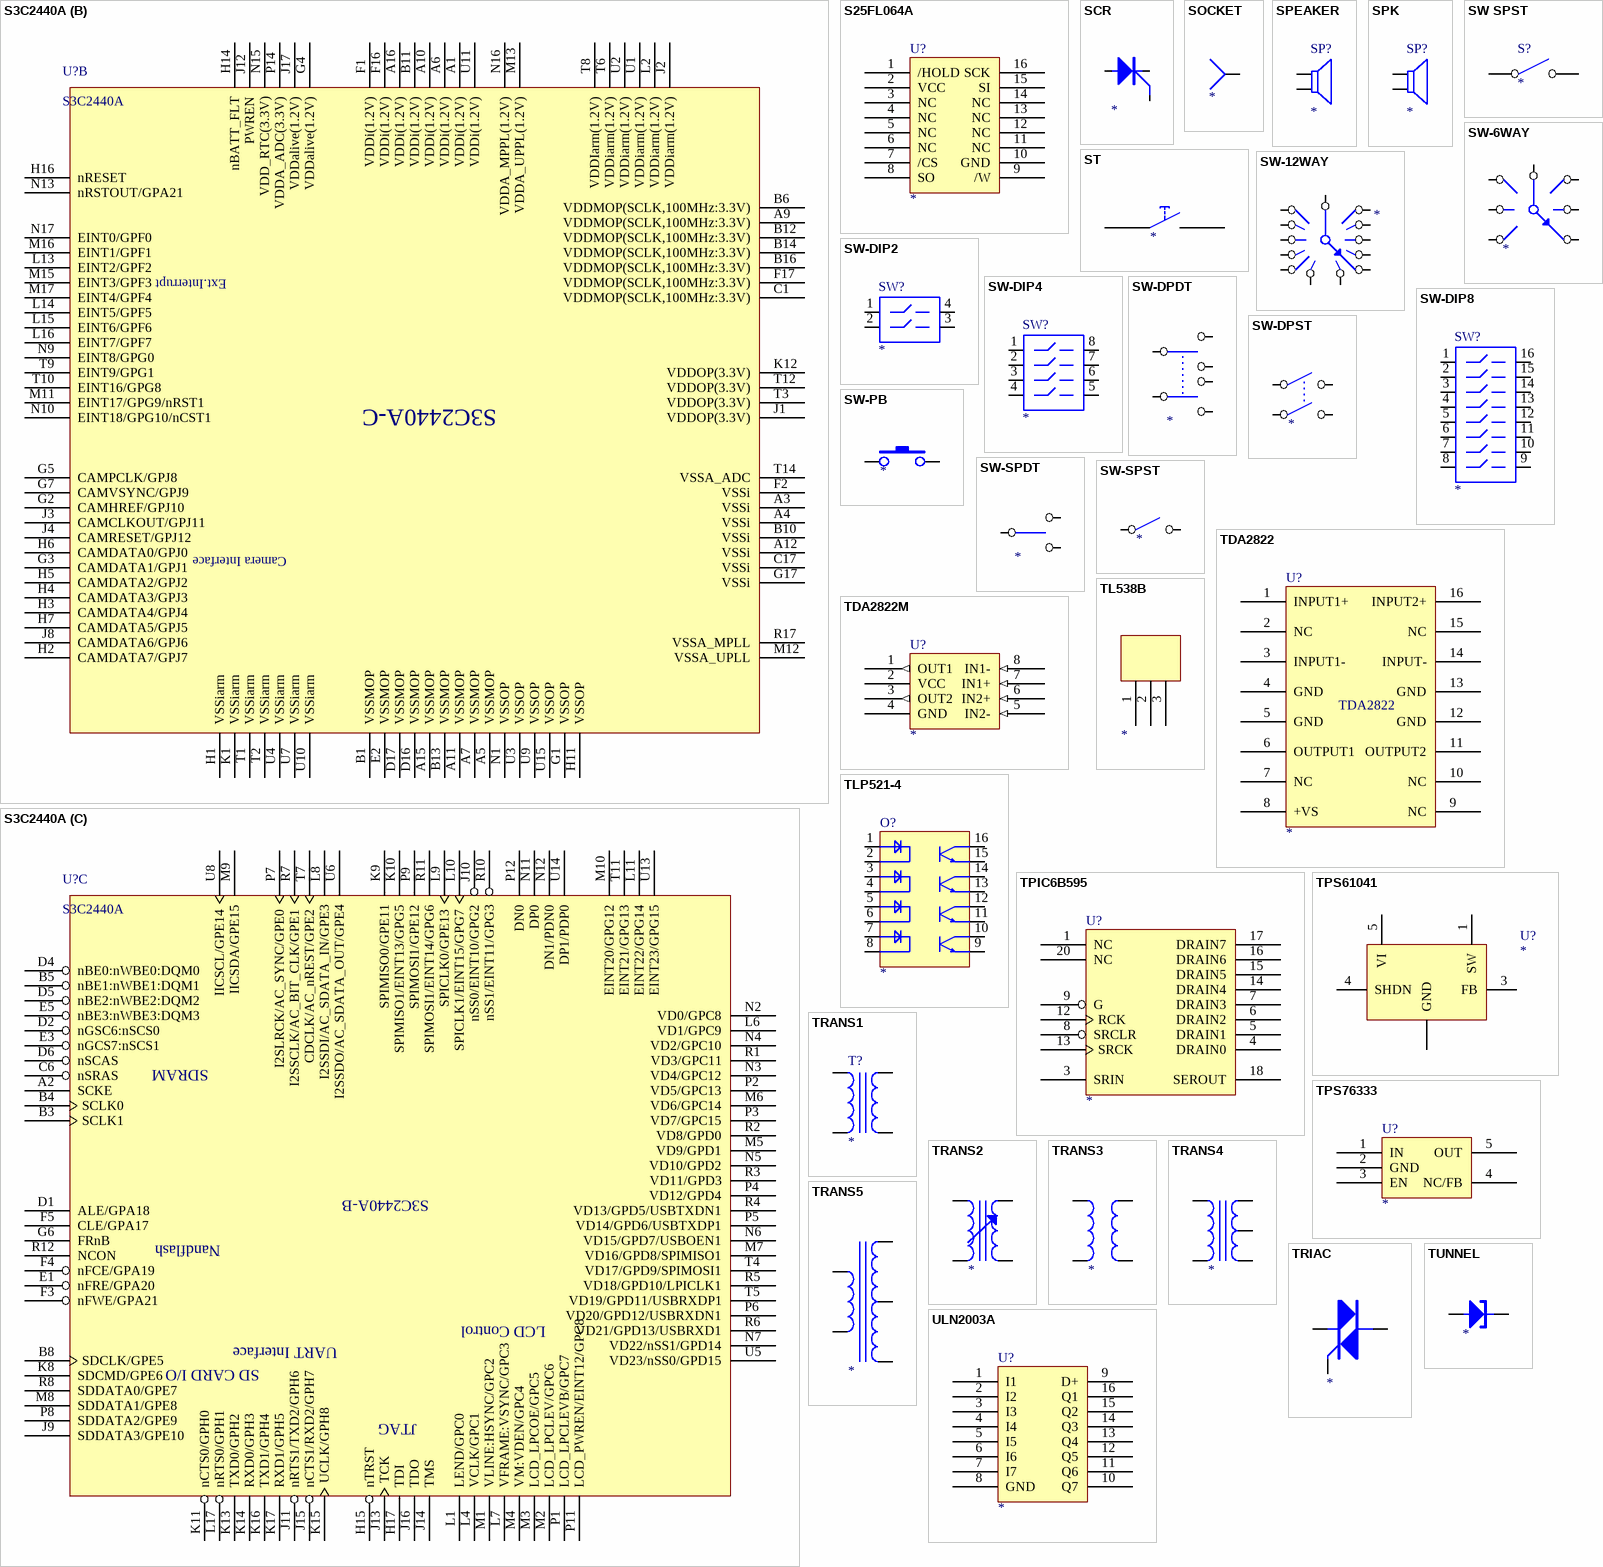
[diagram p10: symbols S3C2440A to ULN2003A]

## S3C2440A
designator U?
footprint 289-FBGA-1414
part A pins: A8 ADDR10, A13 DATA3, A14 DATA7, A17 DATA10, B2 nGCS1/GPA12, B7 ADDR2, B8 ADDR9, B9 ADDR12, B15 DATA9, B17 DATA15, C2 nGCS5/GPA16, C3 nGCS2/GPA13, C4 nGCS3/GPA14, C5 nOE, C7 ADDR4, C8 ADDR11, C9 ADDR15, C10 ADDR21/GPA6, C11 ADDR24/GPA9, C12 DATA1, C13 DATA6, C14 DATA11, C15 DATA13, C16 DATA16, D3 nGCS4/GPA15, D7 ADDR7, D8 ADDR5, D9 ADDR16/GPA1, D10 ADDR20/GPA5, D11 ADDR26/GPA11, D12 DATA0, D13 DATA8, D14 DATA14, D15 DATA12, E6 nWE, E7 ADDR1, E8 ADDR6, E9 ADDR14, E10 ADDR23/GPA8, E11 DATA2, E12 DATA20, E13 DATA19, E14 DATA18, E15 DATA17, E16 DATA21, E17 DATA24, F6 nGCS0, F7 ADDR0/GPA0, F8 ADDR3, F9 ADDR18/GPA3, F10 DATA4, F11 DATA5, F12 DATA27, F13 DATA31, F14 DATA26, F15 DATA22, G8 ADDR8, G9 ADDR17/GPA2, G10 ADDR25/GPA10, G11 DATA28, G12 DATA25, G13 DATA23, G14 XTIpll, G15 XTOpll, G16 DATA29, H8 ADDR13, H9 ADDR19/GPA4, H10 ADDR22/GPA7, H12 EXTCLK, H13 DATA30, J5 TOUT1/GPB1, J6 TOUT0/GPB0, J7 TOUT2/GPB2, K2 nXBACK/GP5, K3 TOUT3/GPB3, K4 TCLK0/GPB4, K5 nXDREQ1/GPB8, K6 nXDREQ0/GPB10, K7 nXDACK1/GPB7, L3 nXDACK0/GPB9, L5 nXBREQ/GPB6, L12 XTOrtc, M14 XTIrtc, N14 MPLLCAP, nWAIT E4, OM0 T15, P10 CLKOUT1/GPH10, P13 OM2, P15 AIN3, P16 AIN6/TSXP, P17 UPLLCAP, R9 CLKOUT0/GPH9, R13 OM1, R14 AIN0, R15 AIN2, T13 OM3, T16 AIN4/TSYM, T17 AIN5/TSYP, U12 TCLK1/EINT19/GPG11, U16 Vref, U17 AIN1
part B pins: A1 VDDi(1.2V), A3 VSSi, A4 VSSi, A5 VSSMOP, A6 VDDi(1.2V), A7 VSSMOP, A9 VDDMOP(SCLK,100MHz:3.3V), A10 VDDi(1.2V), A11 VSSMOP, A12 VSSi, A15 VSSMOP, A16 VDDi(1.2V), B1 VSSMOP, B6 VDDMOP(SCLK,100MHz:3.3V), B10 VSSi, B11 VDDi(1.2V), B12 VDDMOP(SCLK,100MHz:3.3V), B13 VSSMOP, B14 VDDMOP(SCLK,100MHz:3.3V), B16 VDDMOP(SCLK,100MHz:3.3V), C1 VDDMOP(SCLK,100MHz:3.3V), C17 VSSi, D16 VSSMOP, D17 VSSMOP, E2 VSSMOP, F1 VDDi(1.2V), F2 VSSi, F16 VDDi(1.2V), F17 VDDMOP(SCLK,100MHz:3.3V), G1 VSSOP, G2 CAMHREF/GPJ10, G3 CAMDATA1/GPJ1, G4 VDDalive(1.2V), G5 CAMPCLK/GPJ8, G7 CAMVSYNC/GPJ9, G17 VSSi, H1 VSSiarm, H2 CAMDATA7/GPJ7, H3 CAMDATA4/GPJ4, H4 CAMDATA3/GPJ3, H5 CAMDATA2/GPJ2, H6 CAMDATA0/GPJ0, H7 CAMDATA5/GPJ5, H11 VSSOP, H14 nBATT_FLT, H16 nRESET, J1 VDDOP(3.3V), J2 VDDiarm(1.2V), J3 CAMCLKOUT/GPJ11, J4 CAMRESET/GPJ12, J8 CAMDATA6/GPJ6, J12 PWREN, J17 VDDalive(1.2V), K1 VSSiarm, K12 VDDOP(3.3V), L2 VDDiarm(1.2V), L13 EINT2/GPF2, L14 EINT5/GPF5, L15 EINT6/GPF6, L16 EINT7/GPF7, M11 EINT17/GPG9/nRST1, M12 VSSA_UPLL, M13 VDDA_UPPL(1.2V), M15 EINT3/GPF3, M16 EINT1/GPF1, M17 EINT4/GPF4, N1 VSSOP, N9 EINT8/GPG0, N10 EINT18/GPG10/nCST1, N13 nRSTOUT/GPA21, N15 VDD_RTC(3.3V), N16 VDDA_MPPL(1.2V), N17 EINT0/GPF0, P14 VDDA_ADC(3.3V), R17 VSSA_MPLL, T1 VSSiarm, T2 VSSiarm, T3 VDDOP(3.3V), T6 VDDiarm(1.2V), T8 VDDIarm(1.2V), T9 EINT9/GPG1, T10 EINT16/GPG8, T12 VDDOP(3.3V), T14 VSSA_ADC, U1 VDDiarm(1.2V), U2 VDDiarm(1.2V), U3 VSSOP, U4 VSSiarm, U7 VSSiarm, U9 VSSOP, U10 VSSiarm, U11 VDDi(1.2V), U15 VSSOP
part C pins: A2 SCKE, B3 SCLK1, B4 SCLK0, B5 nBE1:nWBE1:DQM1, B8 SDCLK/GPE5, C6 nSRAS, D1 ALE/GPA18, D2 nGSC6:nSCS0, D4 nBE0:nWBE0:DQM0, D5 nBE2:nWBE2:DQM2, D6 nSCAS, E1 nFRE/GPA20, E3 nGCS7:nSCS1, E5 nBE3:nWBE3:DQM3, F3 nFWE/GPA21, F4 nFCE/GPA19, F5 CLE/GPA17, G6 FRnB, H15 nTRST, H17 TDI, J9 SDDATA3/GPE10, J10 nSS0/EINT10/GPG2, J11 nRTS1/TXD2/GPH6, J13 TCK, J14 TMS, J15 nCTS1/RXD2/GPH7, J16 TDO, K8 SDCMD/GPE6, K9 SPIMISO0/GPE11, K10 SPIMISO1/EINT13/GPG5, K11 nCTS0/GPH0, K13 TXD0/GPH2, K14 RXD0/GPH3, K15 UCLK/GPH8, K16 TXD1/GPH4, K17 RXD1/GPH5, L1 LEND/GPC0, L4 VCLK/GPC1, L6 VD1/GPC9, L7 VFRAME:VSYNC/GPC3, L8 I2SSDI/AC_SDATA_IN/GPE3, L9 SPICLK0/GPE13, L10 SPICLK1/EINT15/GPG7, L11 EINT22/GPG14, L17 nRTS0/GPH1, M1 VLINE:HSYNC/GPC2, M2 LCD_LPCLEV/GPC6, M3 LCD_LPCOE/GPC5, M4 VM:VDEN/GPC4, M5 VD9/GPD1, M6 VD6/GPC14, M7 VD16/GPD8/SPIMISO1, M8 SDDATA1/GPE8, M9 IICSDA/GPE15, M10 EINT20/GPG12, N2 VD0/GPC8, N3 VD4/GPC12, N4 VD2/GPC10, N5 VD10/GPD2, N6 VD15/GPD7/USBOEN1, N7 VD22/nSS1/GPD14, N11 DP0, N12 DN1/PDN0, P1 LCD_LPCLEVB/GPC7, P2 VD5/GPC13, P3 VD7/GPC15, P4 VD12/GPD4, P5 VD14/GPD6/USBTXDP1, P6 VD20/GPD12/USBRXDN1, P7 I2SLRCK/AC_SYNC/GPE0, P8 SDDATA2/GPE9, P9 SPIMOSI1/GPE12, P11 LCD_PWREN/EINT12/GPC8, P12 DN0, R1 VD3/GPC11, R2 VD8/GPD0, R3 VD11/GPD3, R4 VD13/GPD5/USBTXDN1, R5 VD18/GPD10/LPICLK1, R6 VD21/GPD13/USBRXD1, R7 I2SSCLK/AC_BIT_CLK/GPE1, R8 SDDATA0/GPE7, R10 nSS1/EINT11/GPG3, R11 SPIMOSI1/EINT14/GPG6, R12 NCON, T4 VD17/GPD9/SPIMOSI1, T5 VD19/GPD11/USBRXDP1, T7 CDCLK/AC_nREST/GPE2, T11 EINT21/GPG13, U5 VD23/nSS0/GPD15, U6 I2SSDO/AC_SDATA_OUT/GPE4, U8 IICSCL/GPE14, U13 EINT23/GPG15, U14 DP1/PDP0
part A text: DMA; Chip Select; Address; S3C2440A-A; Data; Timer; ADC/TSP; Clock
part B text: Ext.Interrupt; S3C2440A-C; Camera Interface
part C text: SDRAM; S3C2440A-B; Nandflash; LCD Control; UART Interface; SD CARD I/O; JTAG

## S25FL064A
designator U?
S25FL064A
footprint SO16
pins: 1 /HOLD, 2 VCC, 3 NC, 4 NC, 5 NC, 6 NC, 7 /CS, 8 SO, 9 /W, 10 GND, 11 NC, 12 NC, 13 NC, 14 NC, 15 SI, 16 SCK

## SCR
designator ?
pins: A, G, K

## SOCKET
designator ?
pins: 1

## SPEAKER
designator SP?
footprint CON2
pins: 1, 2

## SPK
designator SP?
footprint CON2
pins: 1, 2

## ST
designator ?
pins: 1, 2

## SW SPST
designator S?
footprint SIP2
pins: 1, 2

## SW-6WAY
designator ?
pins: 1, 2, 3, 4, 5, 6, 7

## SW-12WAY
designator ?
pins: 1, 2, 3, 4, 5, 6, 7, 8, 9, 10, 11, 12, 13

## SW-DIP2
designator SW?
pins: 1, 2, 3, 4

## SW-DIP4
designator SW?
footprint DIP8
pins: 1, 2, 3, 4, 5, 6, 7, 8

## SW-DIP8
designator SW?
footprint DIP16
pins: 1, 2, 3, 4, 5, 6, 7, 8, 9, 10, 11, 12, 13, 14, 15, 16

## SW-DPDT
designator ?
pins: 1, 2, 3, 4, 5, 6

## SW-DPST
designator ?
pins: 1, 2, 3, 4

## SW-PB
designator ?
pins: 1, 2

## SW-SPDT
designator ?
pins: 1, 2, 3

## SW-SPST
designator ?
pins: 1, 2

## TDA2822
designator U?
TDA2822
footprint DIP16
pins: 1 INPUT1+, 2 NC, 3 INPUT1-, 4 GND (power), 5 GND (power), 6 OUTPUT1, 7 NC, 8 +VS, 9 NC, 10 NC, 11 OUTPUT2, 12 GND (power), 13 GND (power), 14 INPUT-, 15 NC, 16 INPUT2+

## TDA2822M
designator U?
TDA2822M
footprint DIP8
pins: 1 OUT1 (out), 2 VCC (power), 3 OUT2 (out), 4 GND (power), 5 IN2- (in), 6 IN2+ (in), 7 IN1+ (in), 8 IN1- (in)

## TL538B
designator ?
pins: 1  , 2  , 3  

## TLP521-4
designator O?
footprint DIP16
pins: 1  , 2  , 3  , 4  , 5  , 6  , 7  , 8  , 9  , 10  , 11  , 12  , 13  , 14  , 15  , 16  

## TPIC6B595
designator U?
TPIC6B595
pins: 1 NC, 2 VCC (power) hidden to VCC, 3 SRIN, 4 DRAIN0, 5 DRAIN1, 6 DRAIN2, 7 DRAIN3, 8 SRCLR, 9 G, 10 GND (power) hidden to GND, 11 GND (power) hidden to GND, 12 RCK, 13 SRCK, 14 DRAIN4, 15 DRAIN5, 16 DRAIN6, 17 DRAIN7, 18 SEROUT, 19 GND (power) hidden to GND, 20 NC

## TPS61041
designator U?
footprint SOT23-5
pins: 1 SW, 2 GND, 3 FB, 4 SHDN, 5 VI

## TPS76333
designator U?
footprint SOT-23
pins: 1 IN, 2 GND, 3 EN, 4 NC/FB, 5 OUT

## TRANS1
designator T?
footprint EI-14
footprint EI-16
pins: 1, 2, 3, 4

## TRANS2
designator ?
pins: 1, 2, 3, 4

## TRANS3
designator ?
pins: 1, 2, 3, 4

## TRANS4
designator ?
pins: 1, 2, 3, 4, 5

## TRANS5
designator ?
pins: 1, 2, 3, 4, 5

## TRIAC
designator ?
pins: 1, 2, 3

## TUNNEL
designator ?
pins: A, K

## ULN2003A
designator U?
ULN2003A
pins: 1 I1, 2 I2, 3 I3, 4 I4, 5 I5, 6 I6, 7 I7, 8 GND, 9 D+, 10 Q7, 11 Q6, 12 Q5, 13 Q4, 14 Q3, 15 Q2, 16 Q1

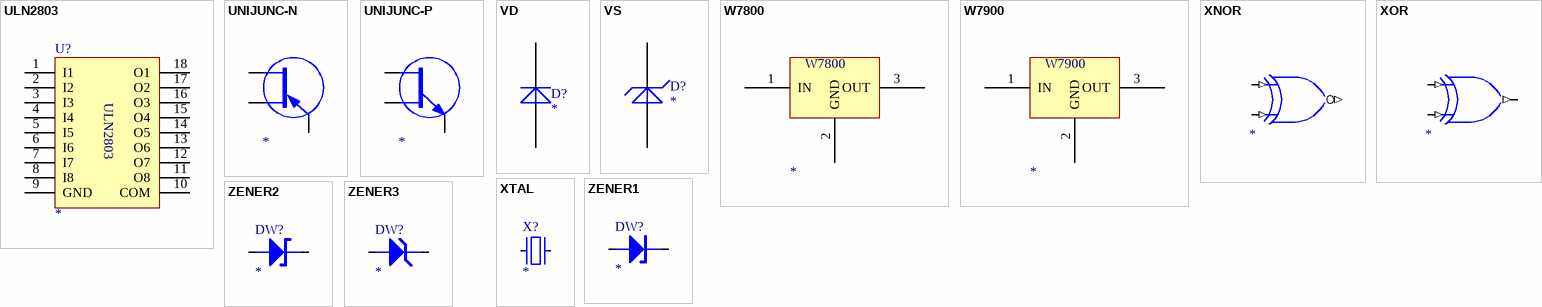
[diagram p11: symbols ULN2803 to ZENER3]

## ULN2803
designator U?
ULN2803
footprint DIP18
pins: 1 I1, 2 I2, 3 I3, 4 I4, 5 I5, 6 I6, 7 I7, 8 I8, 9 GND, 10 COM, 11 O8, 12 O7, 13 O6, 14 O5, 15 O4, 16 O3, 17 O2, 18 O1

## UNIJUNC-N
designator ?
pins: 1, 2, 3

## UNIJUNC-P
designator ?
pins: 1, 2, 3

## VD
designator D?
VD
footprint DIODE-0.4
pins: 1 A, 2 K

## VS
designator D?
VS
footprint DIODE-0.4
pins: 1 A, 2 K

## W7800
designator ?
pins: 1 IN, 2 GND, 3 OUT

## W7900
designator ?
pins: 1 IN, 2 GND, 3 OUT

## XNOR
designator ?
pins: 1 (in), 2 (in), 3 (out)

## XOR
designator ?
pins: 1 (in), 2 (in), 3 (out)

## XTAL
designator X?
footprint XTAL
footprint X32768
pins: 1, 2